# Altium integrated library Atmel Microcontroller AVR UC3.IntLib: 227 symbols (part 22 of 32)
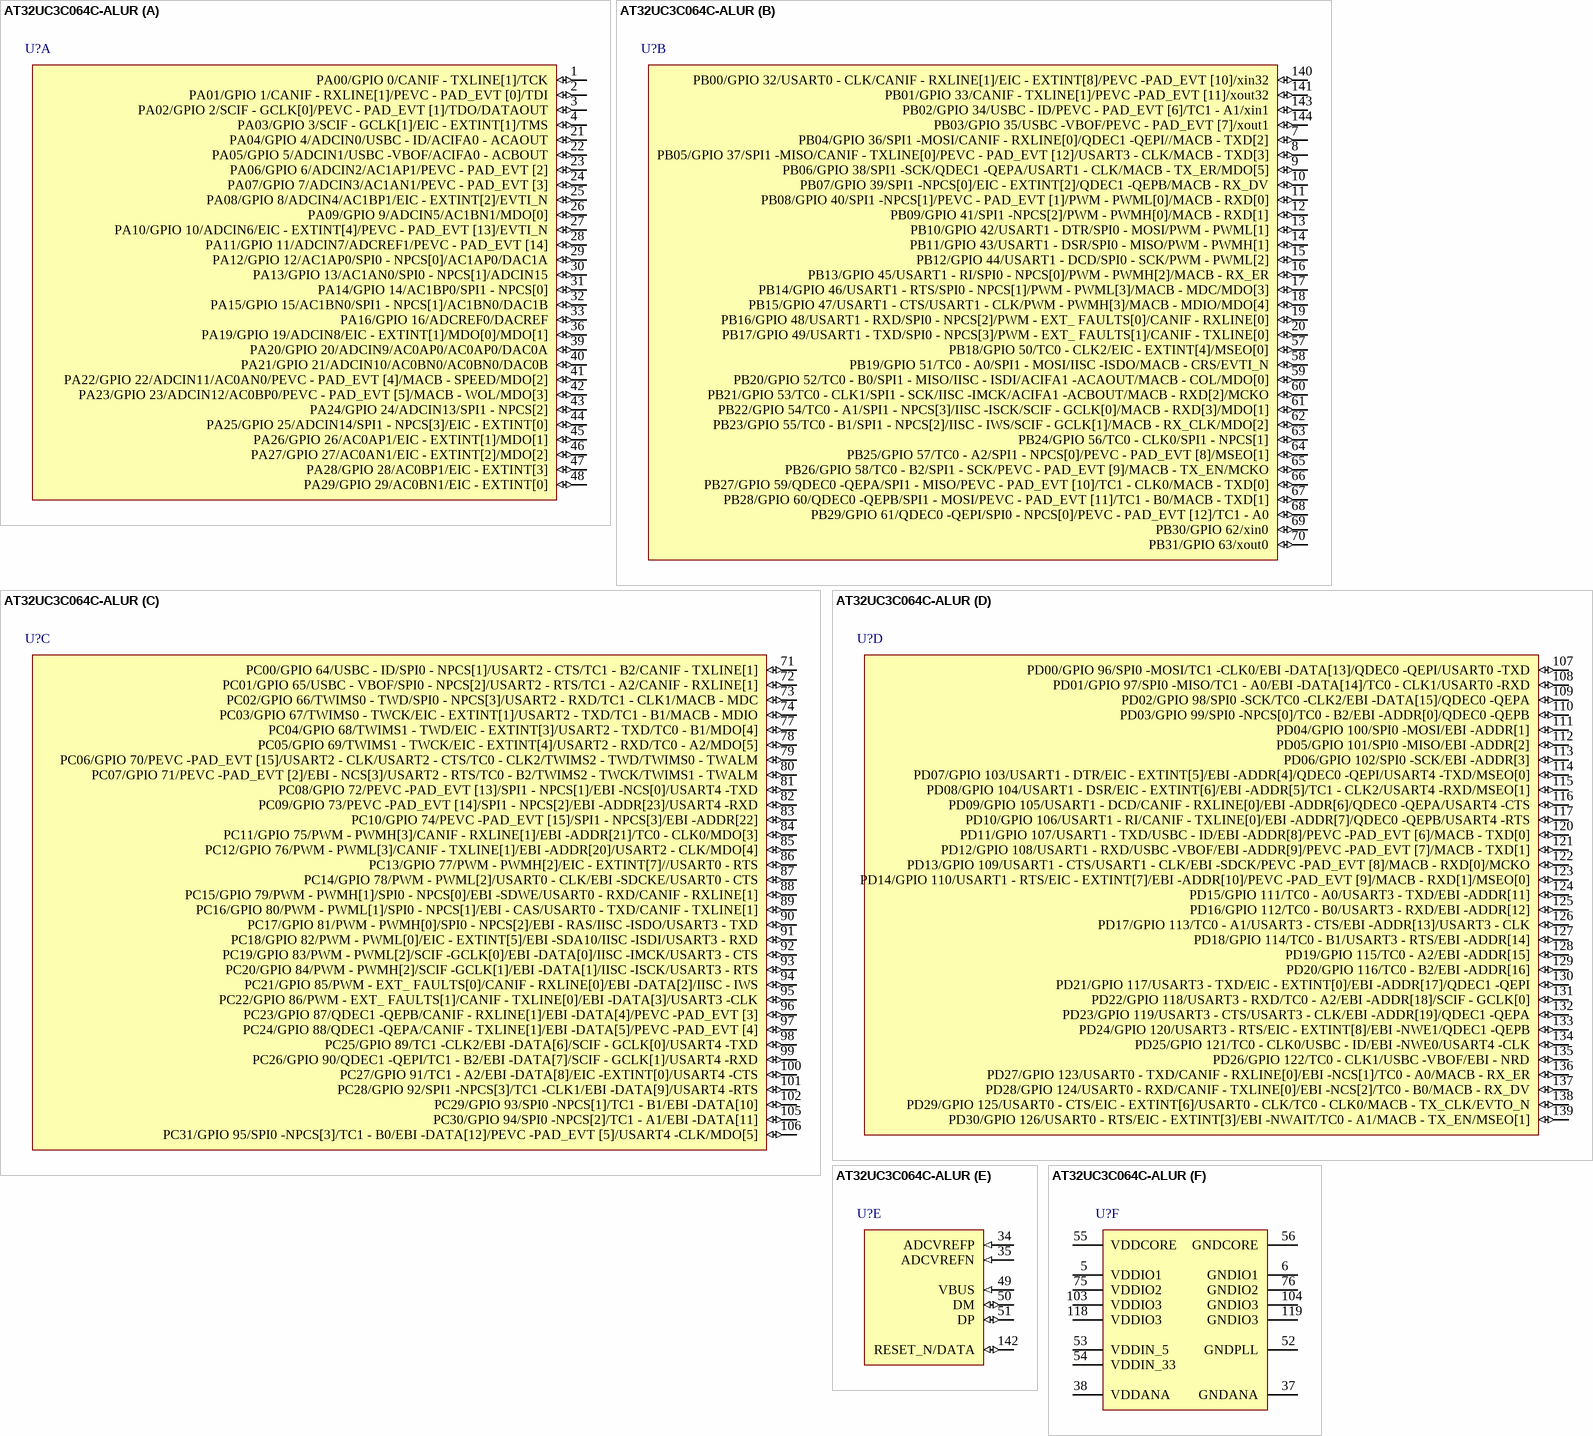
[diagram p153: symbol AT32UC3C064C-ALUR]

## AT32UC3C064C-ALUR
designator U?
32-bit AVR UC3 C Series Microcontroller, 64KB Flash, 20KB SRAM, 123 GPIO pins, Industrial Grade, 144- Pin LQFP, Reel; DatasheetVersion: revC, Aug-2011; PackageVersion: 2011; PackageReference: LQFP144; PackageDescription: 144-Pin Low Profile Plastic Quad Flat Pack, 20 x 20 x 1.4 mm Body, 0.5 mm Pitch; Code_JEDEC: MS-026-BFB; ComponentLink1Description: Manufacturer URL; ComponentLink1URL: http://www.atmel.com/; ComponentLink2Description: AT32UC3C Datasheet; ComponentLink2URL: http://www.atmel.com/dyn/resources/prod_documents/doc32117.pdf; ComponentLink3Description: AT32UC3C Summary; ComponentLink3URL: http://www.atmel.com/dyn/resources/prod_documents/32117s.pdf
footprint LQFP144_N (Thin QFP, 144-Leads, Body 20x20mm, Pitch 0.5mm, IPC Medium Density)
footprint LQFP144_L (Thin QFP, 144-Leads, Body 20x20mm, Pitch 0.5mm, IPC High Density)
footprint LQFP144_M (Thin QFP, 144-Leads, Body 20x20mm, Pitch 0.5mm, IPC Low Density)
part A pins: 1 PA00/GPIO 0/CANIF - TXLINE[1]/TCK (io), 2 PA01/GPIO 1/CANIF - RXLINE[1]/PEVC - PAD_EVT [0]/TDI (io), 3 PA02/GPIO 2/SCIF - GCLK[0]/PEVC - PAD_EVT [1]/TDO/DATAOUT (io), 4 PA03/GPIO 3/SCIF - GCLK[1]/EIC - EXTINT[1]/TMS (io), 21 PA04/GPIO 4/ADCIN0/USBC - ID/ACIFA0 - ACAOUT (io), 22 PA05/GPIO 5/ADCIN1/USBC -VBOF/ACIFA0 - ACBOUT (io), 23 PA06/GPIO 6/ADCIN2/AC1AP1/PEVC - PAD_EVT [2] (io), 24 PA07/GPIO 7/ADCIN3/AC1AN1/PEVC - PAD_EVT [3] (io), 25 PA08/GPIO 8/ADCIN4/AC1BP1/EIC - EXTINT[2]/EVTI_N (io), 26 PA09/GPIO 9/ADCIN5/AC1BN1/MDO[0] (io), 27 PA10/GPIO 10/ADCIN6/EIC - EXTINT[4]/PEVC - PAD_EVT [13]/EVTI_N (io), 28 PA11/GPIO 11/ADCIN7/ADCREF1/PEVC - PAD_EVT [14] (io), 29 PA12/GPIO 12/AC1AP0/SPI0 - NPCS[0]/AC1AP0/DAC1A (io), 30 PA13/GPIO 13/AC1AN0/SPI0 - NPCS[1]/ADCIN15 (io), 31 PA14/GPIO 14/AC1BP0/SPI1 - NPCS[0] (io), 32 PA15/GPIO 15/AC1BN0/SPI1 - NPCS[1]/AC1BN0/DAC1B (io), 33 PA16/GPIO 16/ADCREF0/DACREF (io), 36 PA19/GPIO 19/ADCIN8/EIC - EXTINT[1]/MDO[0]/MDO[1] (io), 39 PA20/GPIO 20/ADCIN9/AC0AP0/AC0AP0/DAC0A (io), 40 PA21/GPIO 21/ADCIN10/AC0BN0/AC0BN0/DAC0B (io), 41 PA22/GPIO 22/ADCIN11/AC0AN0/PEVC - PAD_EVT [4]/MACB - SPEED/MDO[2] (io), 42 PA23/GPIO 23/ADCIN12/AC0BP0/PEVC - PAD_EVT [5]/MACB - WOL/MDO[3] (io), 43 PA24/GPIO 24/ADCIN13/SPI1 - NPCS[2] (io), 44 PA25/GPIO 25/ADCIN14/SPI1 - NPCS[3]/EIC - EXTINT[0] (io), 45 PA26/GPIO 26/AC0AP1/EIC - EXTINT[1]/MDO[1] (io), 46 PA27/GPIO 27/AC0AN1/EIC - EXTINT[2]/MDO[2] (io), 47 PA28/GPIO 28/AC0BP1/EIC - EXTINT[3] (io), 48 PA29/GPIO 29/AC0BN1/EIC - EXTINT[0] (io)
part B pins: 7 PB04/GPIO 36/SPI1 -MOSI/CANIF - RXLINE[0]/QDEC1 -QEPI//MACB - TXD[2] (io), 8 PB05/GPIO 37/SPI1 -MISO/CANIF - TXLINE[0]/PEVC - PAD_EVT [12]/USART3 - CLK/MACB - TXD[3] (io), 9 PB06/GPIO 38/SPI1 -SCK/QDEC1 -QEPA/USART1 - CLK/MACB - TX_ER/MDO[5] (io), 10 PB07/GPIO 39/SPI1 -NPCS[0]/EIC - EXTINT[2]/QDEC1 -QEPB/MACB - RX_DV (io), 11 PB08/GPIO 40/SPI1 -NPCS[1]/PEVC - PAD_EVT [1]/PWM - PWML[0]/MACB - RXD[0] (io), 12 PB09/GPIO 41/SPI1 -NPCS[2]/PWM - PWMH[0]/MACB - RXD[1] (io), 13 PB10/GPIO 42/USART1 - DTR/SPI0 - MOSI/PWM - PWML[1] (io), 14 PB11/GPIO 43/USART1 - DSR/SPI0 - MISO/PWM - PWMH[1] (io), 15 PB12/GPIO 44/USART1 - DCD/SPI0 - SCK/PWM - PWML[2] (io), 16 PB13/GPIO 45/USART1 - RI/SPI0 - NPCS[0]/PWM - PWMH[2]/MACB - RX_ER (io), 17 PB14/GPIO 46/USART1 - RTS/SPI0 - NPCS[1]/PWM - PWML[3]/MACB - MDC/MDO[3] (io), 18 PB15/GPIO 47/USART1 - CTS/USART1 - CLK/PWM - PWMH[3]/MACB - MDIO/MDO[4] (io), 19 PB16/GPIO 48/USART1 - RXD/SPI0 - NPCS[2]/PWM - EXT_ FAULTS[0]/CANIF - RXLINE[0] (io), 20 PB17/GPIO 49/USART1 - TXD/SPI0 - NPCS[3]/PWM - EXT_ FAULTS[1]/CANIF - TXLINE[0] (io), 57 PB18/GPIO 50/TC0 - CLK2/EIC - EXTINT[4]/MSEO[0] (io), 58 PB19/GPIO 51/TC0 - A0/SPI1 - MOSI/IISC -ISDO/MACB - CRS/EVTI_N (io), 59 PB20/GPIO 52/TC0 - B0/SPI1 - MISO/IISC - ISDI/ACIFA1 -ACAOUT/MACB - COL/MDO[0] (io), 60 PB21/GPIO 53/TC0 - CLK1/SPI1 - SCK/IISC -IMCK/ACIFA1 -ACBOUT/MACB - RXD[2]/MCKO (io), 61 PB22/GPIO 54/TC0 - A1/SPI1 - NPCS[3]/IISC -ISCK/SCIF - GCLK[0]/MACB - RXD[3]/MDO[1] (io), 62 PB23/GPIO 55/TC0 - B1/SPI1 - NPCS[2]/IISC - IWS/SCIF - GCLK[1]/MACB - RX_CLK/MDO[2] (io), 63 PB24/GPIO 56/TC0 - CLK0/SPI1 - NPCS[1] (io), 64 PB25/GPIO 57/TC0 - A2/SPI1 - NPCS[0]/PEVC - PAD_EVT [8]/MSEO[1] (io), 65 PB26/GPIO 58/TC0 - B2/SPI1 - SCK/PEVC - PAD_EVT [9]/MACB - TX_EN/MCKO (io), 66 PB27/GPIO 59/QDEC0 -QEPA/SPI1 - MISO/PEVC - PAD_EVT [10]/TC1 - CLK0/MACB - TXD[0] (io), 67 PB28/GPIO 60/QDEC0 -QEPB/SPI1 - MOSI/PEVC - PAD_EVT [11]/TC1 - B0/MACB - TXD[1] (io), 68 PB29/GPIO 61/QDEC0 -QEPI/SPI0 - NPCS[0]/PEVC - PAD_EVT [12]/TC1 - A0 (io), 69 PB30/GPIO 62/xin0 (io), 70 PB31/GPIO 63/xout0 (io), 140 PB00/GPIO 32/USART0 - CLK/CANIF - RXLINE[1]/EIC - EXTINT[8]/PEVC -PAD_EVT [10]/xin32 (io), 141 PB01/GPIO 33/CANIF - TXLINE[1]/PEVC -PAD_EVT [11]/xout32 (io), 143 PB02/GPIO 34/USBC - ID/PEVC - PAD_EVT [6]/TC1 - A1/xin1 (io), 144 PB03/GPIO 35/USBC -VBOF/PEVC - PAD_EVT [7]/xout1 (io)
part C pins: 71 PC00/GPIO 64/USBC - ID/SPI0 - NPCS[1]/USART2 - CTS/TC1 - B2/CANIF - TXLINE[1] (io), 72 PC01/GPIO 65/USBC - VBOF/SPI0 - NPCS[2]/USART2 - RTS/TC1 - A2/CANIF - RXLINE[1] (io), 73 PC02/GPIO 66/TWIMS0 - TWD/SPI0 - NPCS[3]/USART2 - RXD/TC1 - CLK1/MACB - MDC (io), 74 PC03/GPIO 67/TWIMS0 - TWCK/EIC - EXTINT[1]/USART2 - TXD/TC1 - B1/MACB - MDIO (io), 77 PC04/GPIO 68/TWIMS1 - TWD/EIC - EXTINT[3]/USART2 - TXD/TC0 - B1/MDO[4] (io), 78 PC05/GPIO 69/TWIMS1 - TWCK/EIC - EXTINT[4]/USART2 - RXD/TC0 - A2/MDO[5] (io), 79 PC06/GPIO 70/PEVC -PAD_EVT [15]/USART2 - CLK/USART2 - CTS/TC0 - CLK2/TWIMS2 - TWD/TWIMS0 - TWALM (io), 80 PC07/GPIO 71/PEVC -PAD_EVT [2]/EBI - NCS[3]/USART2 - RTS/TC0 - B2/TWIMS2 - TWCK/TWIMS1 - TWALM (io), 81 PC08/GPIO 72/PEVC -PAD_EVT [13]/SPI1 - NPCS[1]/EBI -NCS[0]/USART4 -TXD (io), 82 PC09/GPIO 73/PEVC -PAD_EVT [14]/SPI1 - NPCS[2]/EBI -ADDR[23]/USART4 -RXD (io), 83 PC10/GPIO 74/PEVC -PAD_EVT [15]/SPI1 - NPCS[3]/EBI -ADDR[22] (io), 84 PC11/GPIO 75/PWM - PWMH[3]/CANIF - RXLINE[1]/EBI -ADDR[21]/TC0 - CLK0/MDO[3] (io), 85 PC12/GPIO 76/PWM - PWML[3]/CANIF - TXLINE[1]/EBI -ADDR[20]/USART2 - CLK/MDO[4] (io), 86 PC13/GPIO 77/PWM - PWMH[2]/EIC - EXTINT[7]//USART0 - RTS (io), 87 PC14/GPIO 78/PWM - PWML[2]/USART0 - CLK/EBI -SDCKE/USART0 - CTS (io), 88 PC15/GPIO 79/PWM - PWMH[1]/SPI0 - NPCS[0]/EBI -SDWE/USART0 - RXD/CANIF - RXLINE[1] (io), 89 PC16/GPIO 80/PWM - PWML[1]/SPI0 - NPCS[1]/EBI - CAS/USART0 - TXD/CANIF - TXLINE[1] (io), 90 PC17/GPIO 81/PWM - PWMH[0]/SPI0 - NPCS[2]/EBI - RAS/IISC -ISDO/USART3 - TXD (io), 91 PC18/GPIO 82/PWM - PWML[0]/EIC - EXTINT[5]/EBI -SDA10/IISC -ISDI/USART3 - RXD (io), 92 PC19/GPIO 83/PWM - PWML[2]/SCIF -GCLK[0]/EBI -DATA[0]/IISC -IMCK/USART3 - CTS (io), 93 PC20/GPIO 84/PWM - PWMH[2]/SCIF -GCLK[1]/EBI -DATA[1]/IISC -ISCK/USART3 - RTS (io), 94 PC21/GPIO 85/PWM - EXT_ FAULTS[0]/CANIF - RXLINE[0]/EBI -DATA[2]/IISC - IWS (io), 95 PC22/GPIO 86/PWM - EXT_ FAULTS[1]/CANIF - TXLINE[0]/EBI -DATA[3]/USART3 -CLK (io), 96 PC23/GPIO 87/QDEC1 -QEPB/CANIF - RXLINE[1]/EBI -DATA[4]/PEVC -PAD_EVT [3] (io), 97 PC24/GPIO 88/QDEC1 -QEPA/CANIF - TXLINE[1]/EBI -DATA[5]/PEVC -PAD_EVT [4] (io), 98 PC25/GPIO 89/TC1 -CLK2/EBI -DATA[6]/SCIF - GCLK[0]/USART4 -TXD (io), 99 PC26/GPIO 90/QDEC1 -QEPI/TC1 - B2/EBI -DATA[7]/SCIF - GCLK[1]/USART4 -RXD (io), 100 PC27/GPIO 91/TC1 - A2/EBI -DATA[8]/EIC -EXTINT[0]/USART4 -CTS (io), 101 PC28/GPIO 92/SPI1 -NPCS[3]/TC1 -CLK1/EBI -DATA[9]/USART4 -RTS (io), 102 PC29/GPIO 93/SPI0 -NPCS[1]/TC1 - B1/EBI -DATA[10] (io), 105 PC30/GPIO 94/SPI0 -NPCS[2]/TC1 - A1/EBI -DATA[11] (io), 106 PC31/GPIO 95/SPI0 -NPCS[3]/TC1 - B0/EBI -DATA[12]/PEVC -PAD_EVT [5]/USART4 -CLK/MDO[5] (io)
part D pins: 107 PD00/GPIO 96/SPI0 -MOSI/TC1 -CLK0/EBI -DATA[13]/QDEC0 -QEPI/USART0 -TXD (io), 108 PD01/GPIO 97/SPI0 -MISO/TC1 - A0/EBI -DATA[14]/TC0 - CLK1/USART0 -RXD (io), 109 PD02/GPIO 98/SPI0 -SCK/TC0 -CLK2/EBI -DATA[15]/QDEC0 -QEPA (io), 110 PD03/GPIO 99/SPI0 -NPCS[0]/TC0 - B2/EBI -ADDR[0]/QDEC0 -QEPB (io), 111 PD04/GPIO 100/SPI0 -MOSI/EBI -ADDR[1] (io), 112 PD05/GPIO 101/SPI0 -MISO/EBI -ADDR[2] (io), 113 PD06/GPIO 102/SPI0 -SCK/EBI -ADDR[3] (io), 114 PD07/GPIO 103/USART1 - DTR/EIC - EXTINT[5]/EBI -ADDR[4]/QDEC0 -QEPI/USART4 -TXD/MSEO[0] (io), 115 PD08/GPIO 104/USART1 - DSR/EIC - EXTINT[6]/EBI -ADDR[5]/TC1 - CLK2/USART4 -RXD/MSEO[1] (io), 116 PD09/GPIO 105/USART1 - DCD/CANIF - RXLINE[0]/EBI -ADDR[6]/QDEC0 -QEPA/USART4 -CTS (io), 117 PD10/GPIO 106/USART1 - RI/CANIF - TXLINE[0]/EBI -ADDR[7]/QDEC0 -QEPB/USART4 -RTS (io), 120 PD11/GPIO 107/USART1 - TXD/USBC - ID/EBI -ADDR[8]/PEVC -PAD_EVT [6]/MACB - TXD[0] (io), 121 PD12/GPIO 108/USART1 - RXD/USBC -VBOF/EBI -ADDR[9]/PEVC -PAD_EVT [7]/MACB - TXD[1] (io), 122 PD13/GPIO 109/USART1 - CTS/USART1 - CLK/EBI -SDCK/PEVC -PAD_EVT [8]/MACB - RXD[0]/MCKO (io), 123 PD14/GPIO 110/USART1 - RTS/EIC - EXTINT[7]/EBI -ADDR[10]/PEVC -PAD_EVT [9]/MACB - RXD[1]/MSEO[0] (io), 124 PD15/GPIO 111/TC0 - A0/USART3 - TXD/EBI -ADDR[11] (io), 125 PD16/GPIO 112/TC0 - B0/USART3 - RXD/EBI -ADDR[12] (io), 126 PD17/GPIO 113/TC0 - A1/USART3 - CTS/EBI -ADDR[13]/USART3 - CLK (io), 127 PD18/GPIO 114/TC0 - B1/USART3 - RTS/EBI -ADDR[14] (io), 128 PD19/GPIO 115/TC0 - A2/EBI -ADDR[15] (io), 129 PD20/GPIO 116/TC0 - B2/EBI -ADDR[16] (io), 130 PD21/GPIO 117/USART3 - TXD/EIC - EXTINT[0]/EBI -ADDR[17]/QDEC1 -QEPI (io), 131 PD22/GPIO 118/USART3 - RXD/TC0 - A2/EBI -ADDR[18]/SCIF - GCLK[0] (io), 132 PD23/GPIO 119/USART3 - CTS/USART3 - CLK/EBI -ADDR[19]/QDEC1 -QEPA (io), 133 PD24/GPIO 120/USART3 - RTS/EIC - EXTINT[8]/EBI -NWE1/QDEC1 -QEPB (io), 134 PD25/GPIO 121/TC0 - CLK0/USBC - ID/EBI -NWE0/USART4 -CLK (io), 135 PD26/GPIO 122/TC0 - CLK1/USBC -VBOF/EBI - NRD (io), 136 PD27/GPIO 123/USART0 - TXD/CANIF - RXLINE[0]/EBI -NCS[1]/TC0 - A0/MACB - RX_ER (io), 137 PD28/GPIO 124/USART0 - RXD/CANIF - TXLINE[0]/EBI -NCS[2]/TC0 - B0/MACB - RX_DV (io), 138 PD29/GPIO 125/USART0 - CTS/EIC - EXTINT[6]/USART0 - CLK/TC0 - CLK0/MACB - TX_CLK/EVTO_N (io), 139 PD30/GPIO 126/USART0 - RTS/EIC - EXTINT[3]/EBI -NWAIT/TC0 - A1/MACB - TX_EN/MSEO[1] (io)
part E pins: 34 ADCVREFP (in), 35 ADCVREFN (in), 49 VBUS (in), 50 DM (io), 51 DP (io), 142 RESET_N/DATA (io)
part F pins: 5 VDDIO1 (power), 6 GNDIO1 (power), 37 GNDANA (power), 38 VDDANA (power), 52 GNDPLL (power), 53 VDDIN_5 (power), 54 VDDIN_33 (power), 55 VDDCORE (power), 56 GNDCORE (power), 75 VDDIO2 (power), 76 GNDIO2 (power), 103 VDDIO3 (power), 104 GNDIO3 (power), 118 VDDIO3 (power), 119 GNDIO3 (power)

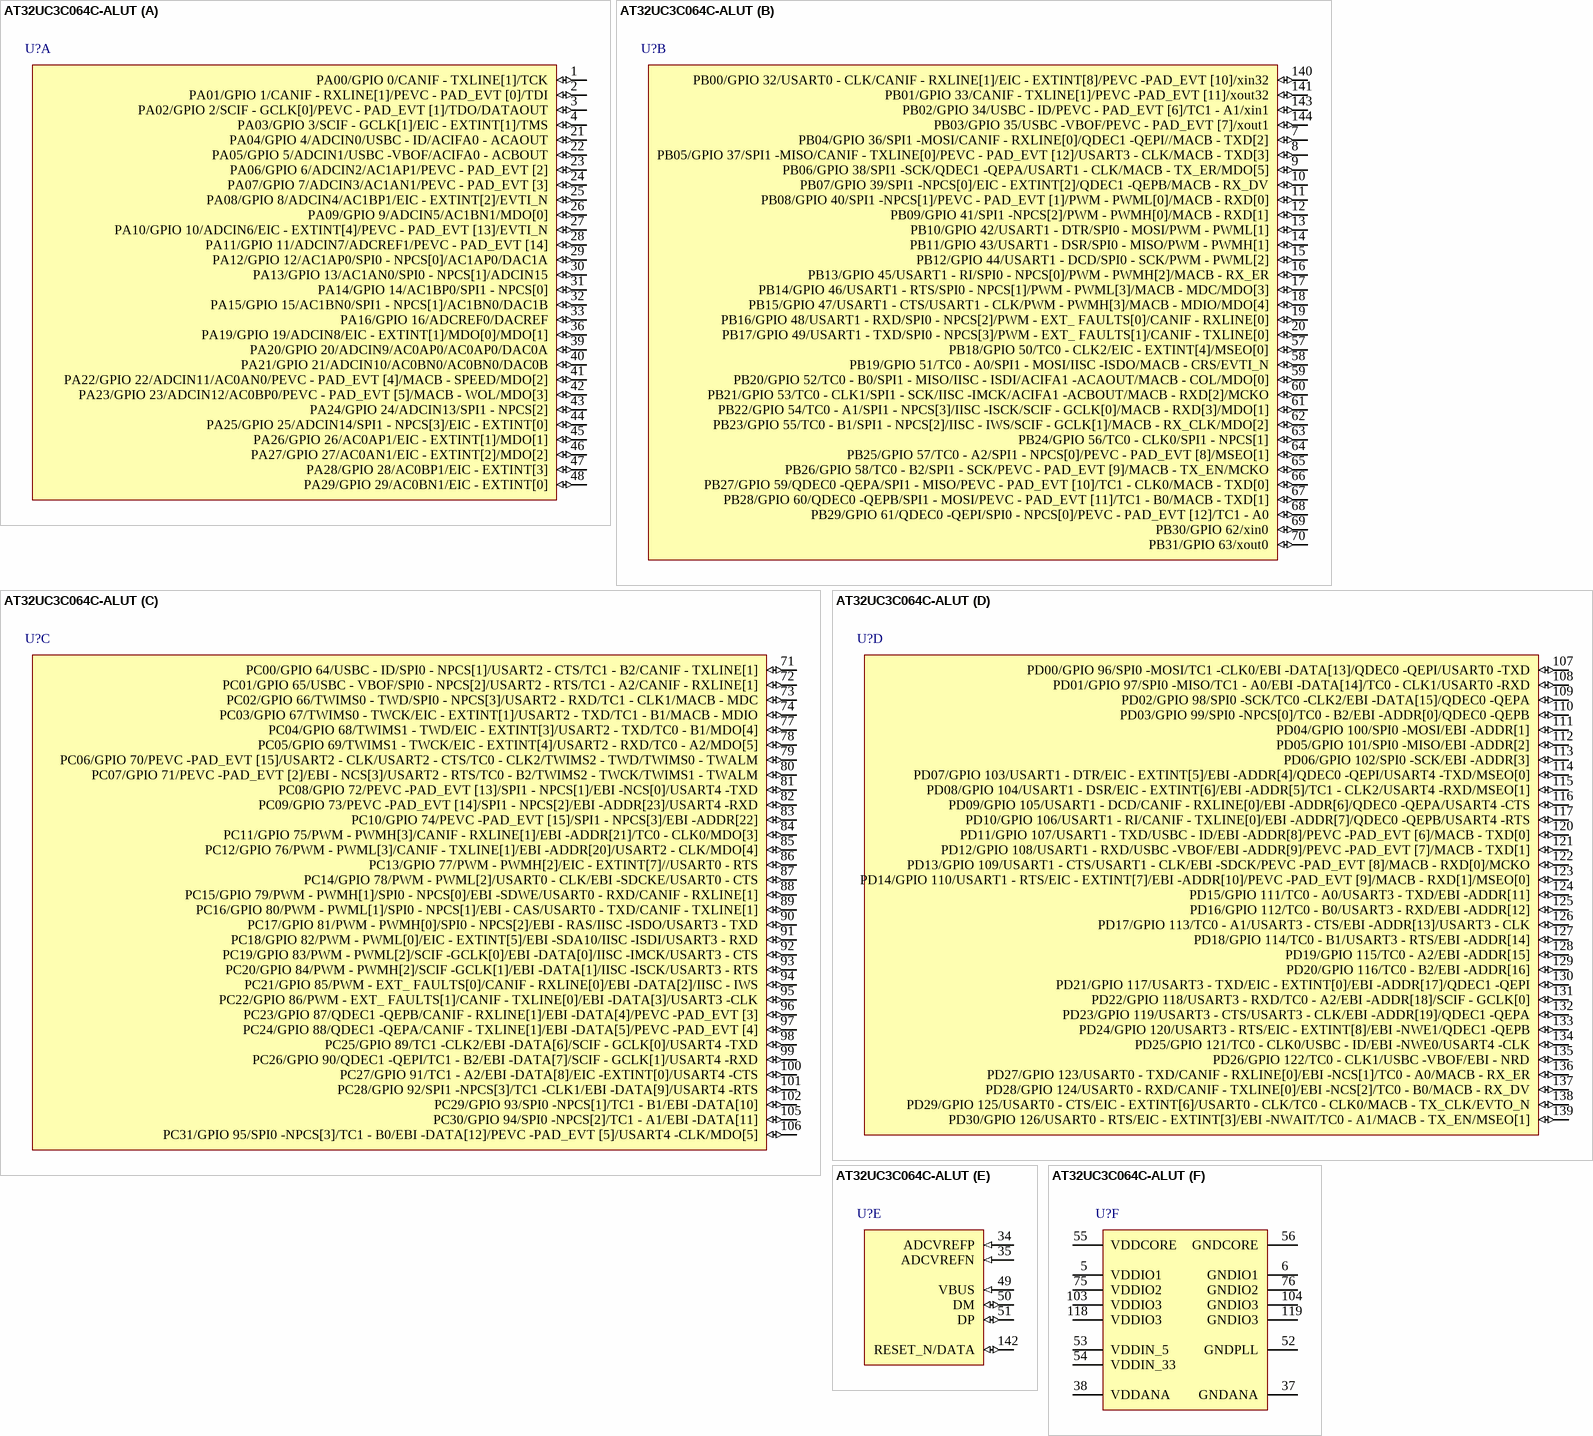
[diagram p71: symbol AT32UC3C064C-ALUT]

## AT32UC3C064C-ALUT
designator U?
32-bit AVR UC3 C Series Microcontroller, 64KB Flash, 20KB SRAM, 123 GPIO pins, Industrial Grade, 144- Pin LQFP, Tray; DatasheetVersion: revC, Aug-2011; PackageVersion: 2011; PackageReference: LQFP144; PackageDescription: 144-Pin Low Profile Plastic Quad Flat Pack, 20 x 20 x 1.4 mm Body, 0.5 mm Pitch; Code_JEDEC: MS-026-BFB; ComponentLink1Description: Manufacturer URL; ComponentLink1URL: http://www.atmel.com/; ComponentLink2Description: AT32UC3C Datasheet; ComponentLink2URL: http://www.atmel.com/dyn/resources/prod_documents/doc32117.pdf; ComponentLink3Description: AT32UC3C Summary; ComponentLink3URL: http://www.atmel.com/dyn/resources/prod_documents/32117s.pdf
footprint LQFP144_N (Thin QFP, 144-Leads, Body 20x20mm, Pitch 0.5mm, IPC Medium Density)
footprint LQFP144_L (Thin QFP, 144-Leads, Body 20x20mm, Pitch 0.5mm, IPC High Density)
footprint LQFP144_M (Thin QFP, 144-Leads, Body 20x20mm, Pitch 0.5mm, IPC Low Density)
part A pins: 1 PA00/GPIO 0/CANIF - TXLINE[1]/TCK (io), 2 PA01/GPIO 1/CANIF - RXLINE[1]/PEVC - PAD_EVT [0]/TDI (io), 3 PA02/GPIO 2/SCIF - GCLK[0]/PEVC - PAD_EVT [1]/TDO/DATAOUT (io), 4 PA03/GPIO 3/SCIF - GCLK[1]/EIC - EXTINT[1]/TMS (io), 21 PA04/GPIO 4/ADCIN0/USBC - ID/ACIFA0 - ACAOUT (io), 22 PA05/GPIO 5/ADCIN1/USBC -VBOF/ACIFA0 - ACBOUT (io), 23 PA06/GPIO 6/ADCIN2/AC1AP1/PEVC - PAD_EVT [2] (io), 24 PA07/GPIO 7/ADCIN3/AC1AN1/PEVC - PAD_EVT [3] (io), 25 PA08/GPIO 8/ADCIN4/AC1BP1/EIC - EXTINT[2]/EVTI_N (io), 26 PA09/GPIO 9/ADCIN5/AC1BN1/MDO[0] (io), 27 PA10/GPIO 10/ADCIN6/EIC - EXTINT[4]/PEVC - PAD_EVT [13]/EVTI_N (io), 28 PA11/GPIO 11/ADCIN7/ADCREF1/PEVC - PAD_EVT [14] (io), 29 PA12/GPIO 12/AC1AP0/SPI0 - NPCS[0]/AC1AP0/DAC1A (io), 30 PA13/GPIO 13/AC1AN0/SPI0 - NPCS[1]/ADCIN15 (io), 31 PA14/GPIO 14/AC1BP0/SPI1 - NPCS[0] (io), 32 PA15/GPIO 15/AC1BN0/SPI1 - NPCS[1]/AC1BN0/DAC1B (io), 33 PA16/GPIO 16/ADCREF0/DACREF (io), 36 PA19/GPIO 19/ADCIN8/EIC - EXTINT[1]/MDO[0]/MDO[1] (io), 39 PA20/GPIO 20/ADCIN9/AC0AP0/AC0AP0/DAC0A (io), 40 PA21/GPIO 21/ADCIN10/AC0BN0/AC0BN0/DAC0B (io), 41 PA22/GPIO 22/ADCIN11/AC0AN0/PEVC - PAD_EVT [4]/MACB - SPEED/MDO[2] (io), 42 PA23/GPIO 23/ADCIN12/AC0BP0/PEVC - PAD_EVT [5]/MACB - WOL/MDO[3] (io), 43 PA24/GPIO 24/ADCIN13/SPI1 - NPCS[2] (io), 44 PA25/GPIO 25/ADCIN14/SPI1 - NPCS[3]/EIC - EXTINT[0] (io), 45 PA26/GPIO 26/AC0AP1/EIC - EXTINT[1]/MDO[1] (io), 46 PA27/GPIO 27/AC0AN1/EIC - EXTINT[2]/MDO[2] (io), 47 PA28/GPIO 28/AC0BP1/EIC - EXTINT[3] (io), 48 PA29/GPIO 29/AC0BN1/EIC - EXTINT[0] (io)
part B pins: 7 PB04/GPIO 36/SPI1 -MOSI/CANIF - RXLINE[0]/QDEC1 -QEPI//MACB - TXD[2] (io), 8 PB05/GPIO 37/SPI1 -MISO/CANIF - TXLINE[0]/PEVC - PAD_EVT [12]/USART3 - CLK/MACB - TXD[3] (io), 9 PB06/GPIO 38/SPI1 -SCK/QDEC1 -QEPA/USART1 - CLK/MACB - TX_ER/MDO[5] (io), 10 PB07/GPIO 39/SPI1 -NPCS[0]/EIC - EXTINT[2]/QDEC1 -QEPB/MACB - RX_DV (io), 11 PB08/GPIO 40/SPI1 -NPCS[1]/PEVC - PAD_EVT [1]/PWM - PWML[0]/MACB - RXD[0] (io), 12 PB09/GPIO 41/SPI1 -NPCS[2]/PWM - PWMH[0]/MACB - RXD[1] (io), 13 PB10/GPIO 42/USART1 - DTR/SPI0 - MOSI/PWM - PWML[1] (io), 14 PB11/GPIO 43/USART1 - DSR/SPI0 - MISO/PWM - PWMH[1] (io), 15 PB12/GPIO 44/USART1 - DCD/SPI0 - SCK/PWM - PWML[2] (io), 16 PB13/GPIO 45/USART1 - RI/SPI0 - NPCS[0]/PWM - PWMH[2]/MACB - RX_ER (io), 17 PB14/GPIO 46/USART1 - RTS/SPI0 - NPCS[1]/PWM - PWML[3]/MACB - MDC/MDO[3] (io), 18 PB15/GPIO 47/USART1 - CTS/USART1 - CLK/PWM - PWMH[3]/MACB - MDIO/MDO[4] (io), 19 PB16/GPIO 48/USART1 - RXD/SPI0 - NPCS[2]/PWM - EXT_ FAULTS[0]/CANIF - RXLINE[0] (io), 20 PB17/GPIO 49/USART1 - TXD/SPI0 - NPCS[3]/PWM - EXT_ FAULTS[1]/CANIF - TXLINE[0] (io), 57 PB18/GPIO 50/TC0 - CLK2/EIC - EXTINT[4]/MSEO[0] (io), 58 PB19/GPIO 51/TC0 - A0/SPI1 - MOSI/IISC -ISDO/MACB - CRS/EVTI_N (io), 59 PB20/GPIO 52/TC0 - B0/SPI1 - MISO/IISC - ISDI/ACIFA1 -ACAOUT/MACB - COL/MDO[0] (io), 60 PB21/GPIO 53/TC0 - CLK1/SPI1 - SCK/IISC -IMCK/ACIFA1 -ACBOUT/MACB - RXD[2]/MCKO (io), 61 PB22/GPIO 54/TC0 - A1/SPI1 - NPCS[3]/IISC -ISCK/SCIF - GCLK[0]/MACB - RXD[3]/MDO[1] (io), 62 PB23/GPIO 55/TC0 - B1/SPI1 - NPCS[2]/IISC - IWS/SCIF - GCLK[1]/MACB - RX_CLK/MDO[2] (io), 63 PB24/GPIO 56/TC0 - CLK0/SPI1 - NPCS[1] (io), 64 PB25/GPIO 57/TC0 - A2/SPI1 - NPCS[0]/PEVC - PAD_EVT [8]/MSEO[1] (io), 65 PB26/GPIO 58/TC0 - B2/SPI1 - SCK/PEVC - PAD_EVT [9]/MACB - TX_EN/MCKO (io), 66 PB27/GPIO 59/QDEC0 -QEPA/SPI1 - MISO/PEVC - PAD_EVT [10]/TC1 - CLK0/MACB - TXD[0] (io), 67 PB28/GPIO 60/QDEC0 -QEPB/SPI1 - MOSI/PEVC - PAD_EVT [11]/TC1 - B0/MACB - TXD[1] (io), 68 PB29/GPIO 61/QDEC0 -QEPI/SPI0 - NPCS[0]/PEVC - PAD_EVT [12]/TC1 - A0 (io), 69 PB30/GPIO 62/xin0 (io), 70 PB31/GPIO 63/xout0 (io), 140 PB00/GPIO 32/USART0 - CLK/CANIF - RXLINE[1]/EIC - EXTINT[8]/PEVC -PAD_EVT [10]/xin32 (io), 141 PB01/GPIO 33/CANIF - TXLINE[1]/PEVC -PAD_EVT [11]/xout32 (io), 143 PB02/GPIO 34/USBC - ID/PEVC - PAD_EVT [6]/TC1 - A1/xin1 (io), 144 PB03/GPIO 35/USBC -VBOF/PEVC - PAD_EVT [7]/xout1 (io)
part C pins: 71 PC00/GPIO 64/USBC - ID/SPI0 - NPCS[1]/USART2 - CTS/TC1 - B2/CANIF - TXLINE[1] (io), 72 PC01/GPIO 65/USBC - VBOF/SPI0 - NPCS[2]/USART2 - RTS/TC1 - A2/CANIF - RXLINE[1] (io), 73 PC02/GPIO 66/TWIMS0 - TWD/SPI0 - NPCS[3]/USART2 - RXD/TC1 - CLK1/MACB - MDC (io), 74 PC03/GPIO 67/TWIMS0 - TWCK/EIC - EXTINT[1]/USART2 - TXD/TC1 - B1/MACB - MDIO (io), 77 PC04/GPIO 68/TWIMS1 - TWD/EIC - EXTINT[3]/USART2 - TXD/TC0 - B1/MDO[4] (io), 78 PC05/GPIO 69/TWIMS1 - TWCK/EIC - EXTINT[4]/USART2 - RXD/TC0 - A2/MDO[5] (io), 79 PC06/GPIO 70/PEVC -PAD_EVT [15]/USART2 - CLK/USART2 - CTS/TC0 - CLK2/TWIMS2 - TWD/TWIMS0 - TWALM (io), 80 PC07/GPIO 71/PEVC -PAD_EVT [2]/EBI - NCS[3]/USART2 - RTS/TC0 - B2/TWIMS2 - TWCK/TWIMS1 - TWALM (io), 81 PC08/GPIO 72/PEVC -PAD_EVT [13]/SPI1 - NPCS[1]/EBI -NCS[0]/USART4 -TXD (io), 82 PC09/GPIO 73/PEVC -PAD_EVT [14]/SPI1 - NPCS[2]/EBI -ADDR[23]/USART4 -RXD (io), 83 PC10/GPIO 74/PEVC -PAD_EVT [15]/SPI1 - NPCS[3]/EBI -ADDR[22] (io), 84 PC11/GPIO 75/PWM - PWMH[3]/CANIF - RXLINE[1]/EBI -ADDR[21]/TC0 - CLK0/MDO[3] (io), 85 PC12/GPIO 76/PWM - PWML[3]/CANIF - TXLINE[1]/EBI -ADDR[20]/USART2 - CLK/MDO[4] (io), 86 PC13/GPIO 77/PWM - PWMH[2]/EIC - EXTINT[7]//USART0 - RTS (io), 87 PC14/GPIO 78/PWM - PWML[2]/USART0 - CLK/EBI -SDCKE/USART0 - CTS (io), 88 PC15/GPIO 79/PWM - PWMH[1]/SPI0 - NPCS[0]/EBI -SDWE/USART0 - RXD/CANIF - RXLINE[1] (io), 89 PC16/GPIO 80/PWM - PWML[1]/SPI0 - NPCS[1]/EBI - CAS/USART0 - TXD/CANIF - TXLINE[1] (io), 90 PC17/GPIO 81/PWM - PWMH[0]/SPI0 - NPCS[2]/EBI - RAS/IISC -ISDO/USART3 - TXD (io), 91 PC18/GPIO 82/PWM - PWML[0]/EIC - EXTINT[5]/EBI -SDA10/IISC -ISDI/USART3 - RXD (io), 92 PC19/GPIO 83/PWM - PWML[2]/SCIF -GCLK[0]/EBI -DATA[0]/IISC -IMCK/USART3 - CTS (io), 93 PC20/GPIO 84/PWM - PWMH[2]/SCIF -GCLK[1]/EBI -DATA[1]/IISC -ISCK/USART3 - RTS (io), 94 PC21/GPIO 85/PWM - EXT_ FAULTS[0]/CANIF - RXLINE[0]/EBI -DATA[2]/IISC - IWS (io), 95 PC22/GPIO 86/PWM - EXT_ FAULTS[1]/CANIF - TXLINE[0]/EBI -DATA[3]/USART3 -CLK (io), 96 PC23/GPIO 87/QDEC1 -QEPB/CANIF - RXLINE[1]/EBI -DATA[4]/PEVC -PAD_EVT [3] (io), 97 PC24/GPIO 88/QDEC1 -QEPA/CANIF - TXLINE[1]/EBI -DATA[5]/PEVC -PAD_EVT [4] (io), 98 PC25/GPIO 89/TC1 -CLK2/EBI -DATA[6]/SCIF - GCLK[0]/USART4 -TXD (io), 99 PC26/GPIO 90/QDEC1 -QEPI/TC1 - B2/EBI -DATA[7]/SCIF - GCLK[1]/USART4 -RXD (io), 100 PC27/GPIO 91/TC1 - A2/EBI -DATA[8]/EIC -EXTINT[0]/USART4 -CTS (io), 101 PC28/GPIO 92/SPI1 -NPCS[3]/TC1 -CLK1/EBI -DATA[9]/USART4 -RTS (io), 102 PC29/GPIO 93/SPI0 -NPCS[1]/TC1 - B1/EBI -DATA[10] (io), 105 PC30/GPIO 94/SPI0 -NPCS[2]/TC1 - A1/EBI -DATA[11] (io), 106 PC31/GPIO 95/SPI0 -NPCS[3]/TC1 - B0/EBI -DATA[12]/PEVC -PAD_EVT [5]/USART4 -CLK/MDO[5] (io)
part D pins: 107 PD00/GPIO 96/SPI0 -MOSI/TC1 -CLK0/EBI -DATA[13]/QDEC0 -QEPI/USART0 -TXD (io), 108 PD01/GPIO 97/SPI0 -MISO/TC1 - A0/EBI -DATA[14]/TC0 - CLK1/USART0 -RXD (io), 109 PD02/GPIO 98/SPI0 -SCK/TC0 -CLK2/EBI -DATA[15]/QDEC0 -QEPA (io), 110 PD03/GPIO 99/SPI0 -NPCS[0]/TC0 - B2/EBI -ADDR[0]/QDEC0 -QEPB (io), 111 PD04/GPIO 100/SPI0 -MOSI/EBI -ADDR[1] (io), 112 PD05/GPIO 101/SPI0 -MISO/EBI -ADDR[2] (io), 113 PD06/GPIO 102/SPI0 -SCK/EBI -ADDR[3] (io), 114 PD07/GPIO 103/USART1 - DTR/EIC - EXTINT[5]/EBI -ADDR[4]/QDEC0 -QEPI/USART4 -TXD/MSEO[0] (io), 115 PD08/GPIO 104/USART1 - DSR/EIC - EXTINT[6]/EBI -ADDR[5]/TC1 - CLK2/USART4 -RXD/MSEO[1] (io), 116 PD09/GPIO 105/USART1 - DCD/CANIF - RXLINE[0]/EBI -ADDR[6]/QDEC0 -QEPA/USART4 -CTS (io), 117 PD10/GPIO 106/USART1 - RI/CANIF - TXLINE[0]/EBI -ADDR[7]/QDEC0 -QEPB/USART4 -RTS (io), 120 PD11/GPIO 107/USART1 - TXD/USBC - ID/EBI -ADDR[8]/PEVC -PAD_EVT [6]/MACB - TXD[0] (io), 121 PD12/GPIO 108/USART1 - RXD/USBC -VBOF/EBI -ADDR[9]/PEVC -PAD_EVT [7]/MACB - TXD[1] (io), 122 PD13/GPIO 109/USART1 - CTS/USART1 - CLK/EBI -SDCK/PEVC -PAD_EVT [8]/MACB - RXD[0]/MCKO (io), 123 PD14/GPIO 110/USART1 - RTS/EIC - EXTINT[7]/EBI -ADDR[10]/PEVC -PAD_EVT [9]/MACB - RXD[1]/MSEO[0] (io), 124 PD15/GPIO 111/TC0 - A0/USART3 - TXD/EBI -ADDR[11] (io), 125 PD16/GPIO 112/TC0 - B0/USART3 - RXD/EBI -ADDR[12] (io), 126 PD17/GPIO 113/TC0 - A1/USART3 - CTS/EBI -ADDR[13]/USART3 - CLK (io), 127 PD18/GPIO 114/TC0 - B1/USART3 - RTS/EBI -ADDR[14] (io), 128 PD19/GPIO 115/TC0 - A2/EBI -ADDR[15] (io), 129 PD20/GPIO 116/TC0 - B2/EBI -ADDR[16] (io), 130 PD21/GPIO 117/USART3 - TXD/EIC - EXTINT[0]/EBI -ADDR[17]/QDEC1 -QEPI (io), 131 PD22/GPIO 118/USART3 - RXD/TC0 - A2/EBI -ADDR[18]/SCIF - GCLK[0] (io), 132 PD23/GPIO 119/USART3 - CTS/USART3 - CLK/EBI -ADDR[19]/QDEC1 -QEPA (io), 133 PD24/GPIO 120/USART3 - RTS/EIC - EXTINT[8]/EBI -NWE1/QDEC1 -QEPB (io), 134 PD25/GPIO 121/TC0 - CLK0/USBC - ID/EBI -NWE0/USART4 -CLK (io), 135 PD26/GPIO 122/TC0 - CLK1/USBC -VBOF/EBI - NRD (io), 136 PD27/GPIO 123/USART0 - TXD/CANIF - RXLINE[0]/EBI -NCS[1]/TC0 - A0/MACB - RX_ER (io), 137 PD28/GPIO 124/USART0 - RXD/CANIF - TXLINE[0]/EBI -NCS[2]/TC0 - B0/MACB - RX_DV (io), 138 PD29/GPIO 125/USART0 - CTS/EIC - EXTINT[6]/USART0 - CLK/TC0 - CLK0/MACB - TX_CLK/EVTO_N (io), 139 PD30/GPIO 126/USART0 - RTS/EIC - EXTINT[3]/EBI -NWAIT/TC0 - A1/MACB - TX_EN/MSEO[1] (io)
part E pins: 34 ADCVREFP (in), 35 ADCVREFN (in), 49 VBUS (in), 50 DM (io), 51 DP (io), 142 RESET_N/DATA (io)
part F pins: 5 VDDIO1 (power), 6 GNDIO1 (power), 37 GNDANA (power), 38 VDDANA (power), 52 GNDPLL (power), 53 VDDIN_5 (power), 54 VDDIN_33 (power), 55 VDDCORE (power), 56 GNDCORE (power), 75 VDDIO2 (power), 76 GNDIO2 (power), 103 VDDIO3 (power), 104 GNDIO3 (power), 118 VDDIO3 (power), 119 GNDIO3 (power)

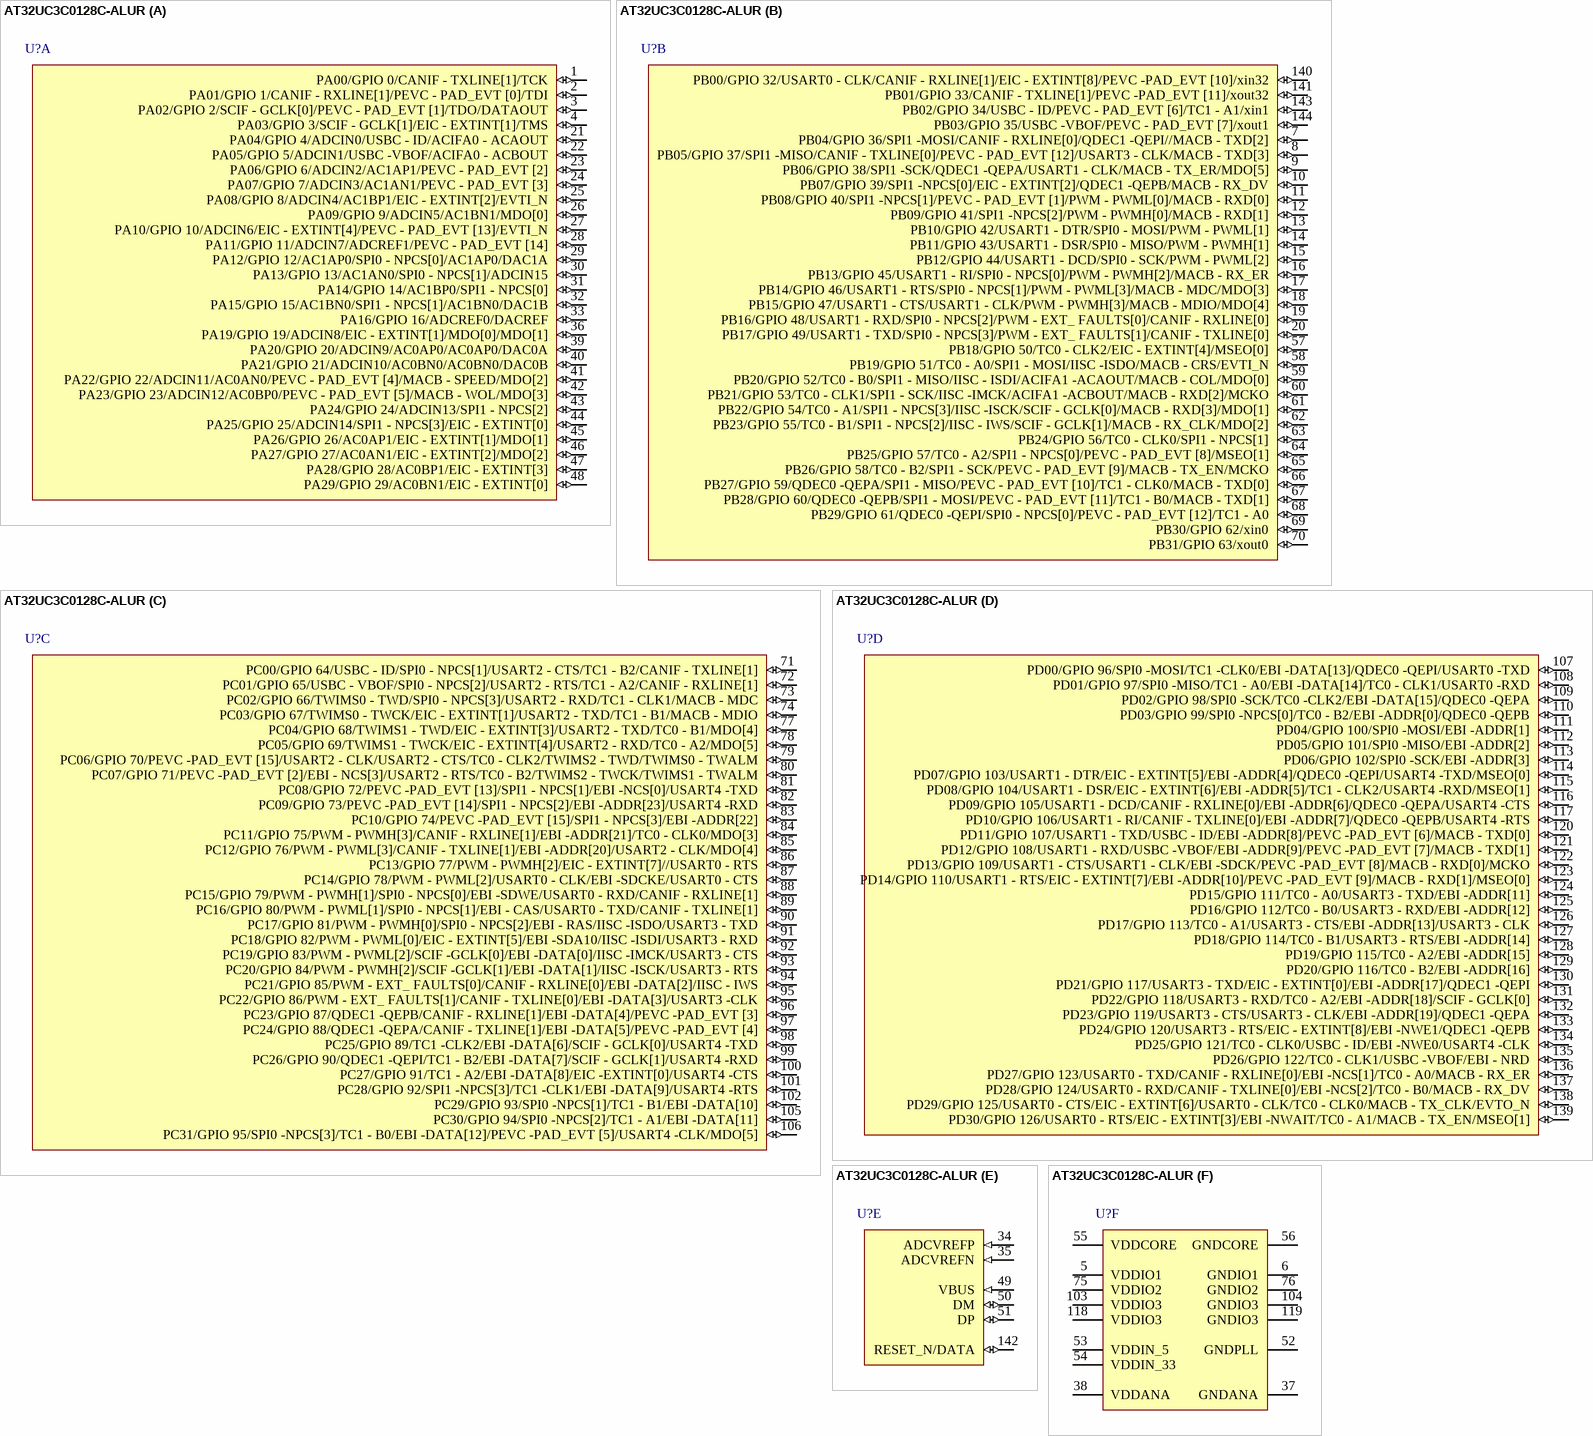
[diagram p72: symbol AT32UC3C0128C-ALUR]

## AT32UC3C0128C-ALUR
designator U?
32-bit AVR UC3 C Series Microcontroller, 128KB Flash, 36KB SRAM, 123 GPIO pins, Industrial Grade, 144- Pin LQFP, Reel; DatasheetVersion: revC, Aug-2011; PackageVersion: 2011; PackageReference: LQFP144; PackageDescription: 144-Pin Low Profile Plastic Quad Flat Pack, 20 x 20 x 1.4 mm Body, 0.5 mm Pitch; Code_JEDEC: MS-026-BFB; ComponentLink1Description: Manufacturer URL; ComponentLink1URL: http://www.atmel.com/; ComponentLink2Description: AT32UC3C Datasheet; ComponentLink2URL: http://www.atmel.com/dyn/resources/prod_documents/doc32117.pdf; ComponentLink3Description: AT32UC3C Summary; ComponentLink3URL: http://www.atmel.com/dyn/resources/prod_documents/32117s.pdf
footprint LQFP144_N (Thin QFP, 144-Leads, Body 20x20mm, Pitch 0.5mm, IPC Medium Density)
footprint LQFP144_L (Thin QFP, 144-Leads, Body 20x20mm, Pitch 0.5mm, IPC High Density)
footprint LQFP144_M (Thin QFP, 144-Leads, Body 20x20mm, Pitch 0.5mm, IPC Low Density)
part A pins: 1 PA00/GPIO 0/CANIF - TXLINE[1]/TCK (io), 2 PA01/GPIO 1/CANIF - RXLINE[1]/PEVC - PAD_EVT [0]/TDI (io), 3 PA02/GPIO 2/SCIF - GCLK[0]/PEVC - PAD_EVT [1]/TDO/DATAOUT (io), 4 PA03/GPIO 3/SCIF - GCLK[1]/EIC - EXTINT[1]/TMS (io), 21 PA04/GPIO 4/ADCIN0/USBC - ID/ACIFA0 - ACAOUT (io), 22 PA05/GPIO 5/ADCIN1/USBC -VBOF/ACIFA0 - ACBOUT (io), 23 PA06/GPIO 6/ADCIN2/AC1AP1/PEVC - PAD_EVT [2] (io), 24 PA07/GPIO 7/ADCIN3/AC1AN1/PEVC - PAD_EVT [3] (io), 25 PA08/GPIO 8/ADCIN4/AC1BP1/EIC - EXTINT[2]/EVTI_N (io), 26 PA09/GPIO 9/ADCIN5/AC1BN1/MDO[0] (io), 27 PA10/GPIO 10/ADCIN6/EIC - EXTINT[4]/PEVC - PAD_EVT [13]/EVTI_N (io), 28 PA11/GPIO 11/ADCIN7/ADCREF1/PEVC - PAD_EVT [14] (io), 29 PA12/GPIO 12/AC1AP0/SPI0 - NPCS[0]/AC1AP0/DAC1A (io), 30 PA13/GPIO 13/AC1AN0/SPI0 - NPCS[1]/ADCIN15 (io), 31 PA14/GPIO 14/AC1BP0/SPI1 - NPCS[0] (io), 32 PA15/GPIO 15/AC1BN0/SPI1 - NPCS[1]/AC1BN0/DAC1B (io), 33 PA16/GPIO 16/ADCREF0/DACREF (io), 36 PA19/GPIO 19/ADCIN8/EIC - EXTINT[1]/MDO[0]/MDO[1] (io), 39 PA20/GPIO 20/ADCIN9/AC0AP0/AC0AP0/DAC0A (io), 40 PA21/GPIO 21/ADCIN10/AC0BN0/AC0BN0/DAC0B (io), 41 PA22/GPIO 22/ADCIN11/AC0AN0/PEVC - PAD_EVT [4]/MACB - SPEED/MDO[2] (io), 42 PA23/GPIO 23/ADCIN12/AC0BP0/PEVC - PAD_EVT [5]/MACB - WOL/MDO[3] (io), 43 PA24/GPIO 24/ADCIN13/SPI1 - NPCS[2] (io), 44 PA25/GPIO 25/ADCIN14/SPI1 - NPCS[3]/EIC - EXTINT[0] (io), 45 PA26/GPIO 26/AC0AP1/EIC - EXTINT[1]/MDO[1] (io), 46 PA27/GPIO 27/AC0AN1/EIC - EXTINT[2]/MDO[2] (io), 47 PA28/GPIO 28/AC0BP1/EIC - EXTINT[3] (io), 48 PA29/GPIO 29/AC0BN1/EIC - EXTINT[0] (io)
part B pins: 7 PB04/GPIO 36/SPI1 -MOSI/CANIF - RXLINE[0]/QDEC1 -QEPI//MACB - TXD[2] (io), 8 PB05/GPIO 37/SPI1 -MISO/CANIF - TXLINE[0]/PEVC - PAD_EVT [12]/USART3 - CLK/MACB - TXD[3] (io), 9 PB06/GPIO 38/SPI1 -SCK/QDEC1 -QEPA/USART1 - CLK/MACB - TX_ER/MDO[5] (io), 10 PB07/GPIO 39/SPI1 -NPCS[0]/EIC - EXTINT[2]/QDEC1 -QEPB/MACB - RX_DV (io), 11 PB08/GPIO 40/SPI1 -NPCS[1]/PEVC - PAD_EVT [1]/PWM - PWML[0]/MACB - RXD[0] (io), 12 PB09/GPIO 41/SPI1 -NPCS[2]/PWM - PWMH[0]/MACB - RXD[1] (io), 13 PB10/GPIO 42/USART1 - DTR/SPI0 - MOSI/PWM - PWML[1] (io), 14 PB11/GPIO 43/USART1 - DSR/SPI0 - MISO/PWM - PWMH[1] (io), 15 PB12/GPIO 44/USART1 - DCD/SPI0 - SCK/PWM - PWML[2] (io), 16 PB13/GPIO 45/USART1 - RI/SPI0 - NPCS[0]/PWM - PWMH[2]/MACB - RX_ER (io), 17 PB14/GPIO 46/USART1 - RTS/SPI0 - NPCS[1]/PWM - PWML[3]/MACB - MDC/MDO[3] (io), 18 PB15/GPIO 47/USART1 - CTS/USART1 - CLK/PWM - PWMH[3]/MACB - MDIO/MDO[4] (io), 19 PB16/GPIO 48/USART1 - RXD/SPI0 - NPCS[2]/PWM - EXT_ FAULTS[0]/CANIF - RXLINE[0] (io), 20 PB17/GPIO 49/USART1 - TXD/SPI0 - NPCS[3]/PWM - EXT_ FAULTS[1]/CANIF - TXLINE[0] (io), 57 PB18/GPIO 50/TC0 - CLK2/EIC - EXTINT[4]/MSEO[0] (io), 58 PB19/GPIO 51/TC0 - A0/SPI1 - MOSI/IISC -ISDO/MACB - CRS/EVTI_N (io), 59 PB20/GPIO 52/TC0 - B0/SPI1 - MISO/IISC - ISDI/ACIFA1 -ACAOUT/MACB - COL/MDO[0] (io), 60 PB21/GPIO 53/TC0 - CLK1/SPI1 - SCK/IISC -IMCK/ACIFA1 -ACBOUT/MACB - RXD[2]/MCKO (io), 61 PB22/GPIO 54/TC0 - A1/SPI1 - NPCS[3]/IISC -ISCK/SCIF - GCLK[0]/MACB - RXD[3]/MDO[1] (io), 62 PB23/GPIO 55/TC0 - B1/SPI1 - NPCS[2]/IISC - IWS/SCIF - GCLK[1]/MACB - RX_CLK/MDO[2] (io), 63 PB24/GPIO 56/TC0 - CLK0/SPI1 - NPCS[1] (io), 64 PB25/GPIO 57/TC0 - A2/SPI1 - NPCS[0]/PEVC - PAD_EVT [8]/MSEO[1] (io), 65 PB26/GPIO 58/TC0 - B2/SPI1 - SCK/PEVC - PAD_EVT [9]/MACB - TX_EN/MCKO (io), 66 PB27/GPIO 59/QDEC0 -QEPA/SPI1 - MISO/PEVC - PAD_EVT [10]/TC1 - CLK0/MACB - TXD[0] (io), 67 PB28/GPIO 60/QDEC0 -QEPB/SPI1 - MOSI/PEVC - PAD_EVT [11]/TC1 - B0/MACB - TXD[1] (io), 68 PB29/GPIO 61/QDEC0 -QEPI/SPI0 - NPCS[0]/PEVC - PAD_EVT [12]/TC1 - A0 (io), 69 PB30/GPIO 62/xin0 (io), 70 PB31/GPIO 63/xout0 (io), 140 PB00/GPIO 32/USART0 - CLK/CANIF - RXLINE[1]/EIC - EXTINT[8]/PEVC -PAD_EVT [10]/xin32 (io), 141 PB01/GPIO 33/CANIF - TXLINE[1]/PEVC -PAD_EVT [11]/xout32 (io), 143 PB02/GPIO 34/USBC - ID/PEVC - PAD_EVT [6]/TC1 - A1/xin1 (io), 144 PB03/GPIO 35/USBC -VBOF/PEVC - PAD_EVT [7]/xout1 (io)
part C pins: 71 PC00/GPIO 64/USBC - ID/SPI0 - NPCS[1]/USART2 - CTS/TC1 - B2/CANIF - TXLINE[1] (io), 72 PC01/GPIO 65/USBC - VBOF/SPI0 - NPCS[2]/USART2 - RTS/TC1 - A2/CANIF - RXLINE[1] (io), 73 PC02/GPIO 66/TWIMS0 - TWD/SPI0 - NPCS[3]/USART2 - RXD/TC1 - CLK1/MACB - MDC (io), 74 PC03/GPIO 67/TWIMS0 - TWCK/EIC - EXTINT[1]/USART2 - TXD/TC1 - B1/MACB - MDIO (io), 77 PC04/GPIO 68/TWIMS1 - TWD/EIC - EXTINT[3]/USART2 - TXD/TC0 - B1/MDO[4] (io), 78 PC05/GPIO 69/TWIMS1 - TWCK/EIC - EXTINT[4]/USART2 - RXD/TC0 - A2/MDO[5] (io), 79 PC06/GPIO 70/PEVC -PAD_EVT [15]/USART2 - CLK/USART2 - CTS/TC0 - CLK2/TWIMS2 - TWD/TWIMS0 - TWALM (io), 80 PC07/GPIO 71/PEVC -PAD_EVT [2]/EBI - NCS[3]/USART2 - RTS/TC0 - B2/TWIMS2 - TWCK/TWIMS1 - TWALM (io), 81 PC08/GPIO 72/PEVC -PAD_EVT [13]/SPI1 - NPCS[1]/EBI -NCS[0]/USART4 -TXD (io), 82 PC09/GPIO 73/PEVC -PAD_EVT [14]/SPI1 - NPCS[2]/EBI -ADDR[23]/USART4 -RXD (io), 83 PC10/GPIO 74/PEVC -PAD_EVT [15]/SPI1 - NPCS[3]/EBI -ADDR[22] (io), 84 PC11/GPIO 75/PWM - PWMH[3]/CANIF - RXLINE[1]/EBI -ADDR[21]/TC0 - CLK0/MDO[3] (io), 85 PC12/GPIO 76/PWM - PWML[3]/CANIF - TXLINE[1]/EBI -ADDR[20]/USART2 - CLK/MDO[4] (io), 86 PC13/GPIO 77/PWM - PWMH[2]/EIC - EXTINT[7]//USART0 - RTS (io), 87 PC14/GPIO 78/PWM - PWML[2]/USART0 - CLK/EBI -SDCKE/USART0 - CTS (io), 88 PC15/GPIO 79/PWM - PWMH[1]/SPI0 - NPCS[0]/EBI -SDWE/USART0 - RXD/CANIF - RXLINE[1] (io), 89 PC16/GPIO 80/PWM - PWML[1]/SPI0 - NPCS[1]/EBI - CAS/USART0 - TXD/CANIF - TXLINE[1] (io), 90 PC17/GPIO 81/PWM - PWMH[0]/SPI0 - NPCS[2]/EBI - RAS/IISC -ISDO/USART3 - TXD (io), 91 PC18/GPIO 82/PWM - PWML[0]/EIC - EXTINT[5]/EBI -SDA10/IISC -ISDI/USART3 - RXD (io), 92 PC19/GPIO 83/PWM - PWML[2]/SCIF -GCLK[0]/EBI -DATA[0]/IISC -IMCK/USART3 - CTS (io), 93 PC20/GPIO 84/PWM - PWMH[2]/SCIF -GCLK[1]/EBI -DATA[1]/IISC -ISCK/USART3 - RTS (io), 94 PC21/GPIO 85/PWM - EXT_ FAULTS[0]/CANIF - RXLINE[0]/EBI -DATA[2]/IISC - IWS (io), 95 PC22/GPIO 86/PWM - EXT_ FAULTS[1]/CANIF - TXLINE[0]/EBI -DATA[3]/USART3 -CLK (io), 96 PC23/GPIO 87/QDEC1 -QEPB/CANIF - RXLINE[1]/EBI -DATA[4]/PEVC -PAD_EVT [3] (io), 97 PC24/GPIO 88/QDEC1 -QEPA/CANIF - TXLINE[1]/EBI -DATA[5]/PEVC -PAD_EVT [4] (io), 98 PC25/GPIO 89/TC1 -CLK2/EBI -DATA[6]/SCIF - GCLK[0]/USART4 -TXD (io), 99 PC26/GPIO 90/QDEC1 -QEPI/TC1 - B2/EBI -DATA[7]/SCIF - GCLK[1]/USART4 -RXD (io), 100 PC27/GPIO 91/TC1 - A2/EBI -DATA[8]/EIC -EXTINT[0]/USART4 -CTS (io), 101 PC28/GPIO 92/SPI1 -NPCS[3]/TC1 -CLK1/EBI -DATA[9]/USART4 -RTS (io), 102 PC29/GPIO 93/SPI0 -NPCS[1]/TC1 - B1/EBI -DATA[10] (io), 105 PC30/GPIO 94/SPI0 -NPCS[2]/TC1 - A1/EBI -DATA[11] (io), 106 PC31/GPIO 95/SPI0 -NPCS[3]/TC1 - B0/EBI -DATA[12]/PEVC -PAD_EVT [5]/USART4 -CLK/MDO[5] (io)
part D pins: 107 PD00/GPIO 96/SPI0 -MOSI/TC1 -CLK0/EBI -DATA[13]/QDEC0 -QEPI/USART0 -TXD (io), 108 PD01/GPIO 97/SPI0 -MISO/TC1 - A0/EBI -DATA[14]/TC0 - CLK1/USART0 -RXD (io), 109 PD02/GPIO 98/SPI0 -SCK/TC0 -CLK2/EBI -DATA[15]/QDEC0 -QEPA (io), 110 PD03/GPIO 99/SPI0 -NPCS[0]/TC0 - B2/EBI -ADDR[0]/QDEC0 -QEPB (io), 111 PD04/GPIO 100/SPI0 -MOSI/EBI -ADDR[1] (io), 112 PD05/GPIO 101/SPI0 -MISO/EBI -ADDR[2] (io), 113 PD06/GPIO 102/SPI0 -SCK/EBI -ADDR[3] (io), 114 PD07/GPIO 103/USART1 - DTR/EIC - EXTINT[5]/EBI -ADDR[4]/QDEC0 -QEPI/USART4 -TXD/MSEO[0] (io), 115 PD08/GPIO 104/USART1 - DSR/EIC - EXTINT[6]/EBI -ADDR[5]/TC1 - CLK2/USART4 -RXD/MSEO[1] (io), 116 PD09/GPIO 105/USART1 - DCD/CANIF - RXLINE[0]/EBI -ADDR[6]/QDEC0 -QEPA/USART4 -CTS (io), 117 PD10/GPIO 106/USART1 - RI/CANIF - TXLINE[0]/EBI -ADDR[7]/QDEC0 -QEPB/USART4 -RTS (io), 120 PD11/GPIO 107/USART1 - TXD/USBC - ID/EBI -ADDR[8]/PEVC -PAD_EVT [6]/MACB - TXD[0] (io), 121 PD12/GPIO 108/USART1 - RXD/USBC -VBOF/EBI -ADDR[9]/PEVC -PAD_EVT [7]/MACB - TXD[1] (io), 122 PD13/GPIO 109/USART1 - CTS/USART1 - CLK/EBI -SDCK/PEVC -PAD_EVT [8]/MACB - RXD[0]/MCKO (io), 123 PD14/GPIO 110/USART1 - RTS/EIC - EXTINT[7]/EBI -ADDR[10]/PEVC -PAD_EVT [9]/MACB - RXD[1]/MSEO[0] (io), 124 PD15/GPIO 111/TC0 - A0/USART3 - TXD/EBI -ADDR[11] (io), 125 PD16/GPIO 112/TC0 - B0/USART3 - RXD/EBI -ADDR[12] (io), 126 PD17/GPIO 113/TC0 - A1/USART3 - CTS/EBI -ADDR[13]/USART3 - CLK (io), 127 PD18/GPIO 114/TC0 - B1/USART3 - RTS/EBI -ADDR[14] (io), 128 PD19/GPIO 115/TC0 - A2/EBI -ADDR[15] (io), 129 PD20/GPIO 116/TC0 - B2/EBI -ADDR[16] (io), 130 PD21/GPIO 117/USART3 - TXD/EIC - EXTINT[0]/EBI -ADDR[17]/QDEC1 -QEPI (io), 131 PD22/GPIO 118/USART3 - RXD/TC0 - A2/EBI -ADDR[18]/SCIF - GCLK[0] (io), 132 PD23/GPIO 119/USART3 - CTS/USART3 - CLK/EBI -ADDR[19]/QDEC1 -QEPA (io), 133 PD24/GPIO 120/USART3 - RTS/EIC - EXTINT[8]/EBI -NWE1/QDEC1 -QEPB (io), 134 PD25/GPIO 121/TC0 - CLK0/USBC - ID/EBI -NWE0/USART4 -CLK (io), 135 PD26/GPIO 122/TC0 - CLK1/USBC -VBOF/EBI - NRD (io), 136 PD27/GPIO 123/USART0 - TXD/CANIF - RXLINE[0]/EBI -NCS[1]/TC0 - A0/MACB - RX_ER (io), 137 PD28/GPIO 124/USART0 - RXD/CANIF - TXLINE[0]/EBI -NCS[2]/TC0 - B0/MACB - RX_DV (io), 138 PD29/GPIO 125/USART0 - CTS/EIC - EXTINT[6]/USART0 - CLK/TC0 - CLK0/MACB - TX_CLK/EVTO_N (io), 139 PD30/GPIO 126/USART0 - RTS/EIC - EXTINT[3]/EBI -NWAIT/TC0 - A1/MACB - TX_EN/MSEO[1] (io)
part E pins: 34 ADCVREFP (in), 35 ADCVREFN (in), 49 VBUS (in), 50 DM (io), 51 DP (io), 142 RESET_N/DATA (io)
part F pins: 5 VDDIO1 (power), 6 GNDIO1 (power), 37 GNDANA (power), 38 VDDANA (power), 52 GNDPLL (power), 53 VDDIN_5 (power), 54 VDDIN_33 (power), 55 VDDCORE (power), 56 GNDCORE (power), 75 VDDIO2 (power), 76 GNDIO2 (power), 103 VDDIO3 (power), 104 GNDIO3 (power), 118 VDDIO3 (power), 119 GNDIO3 (power)

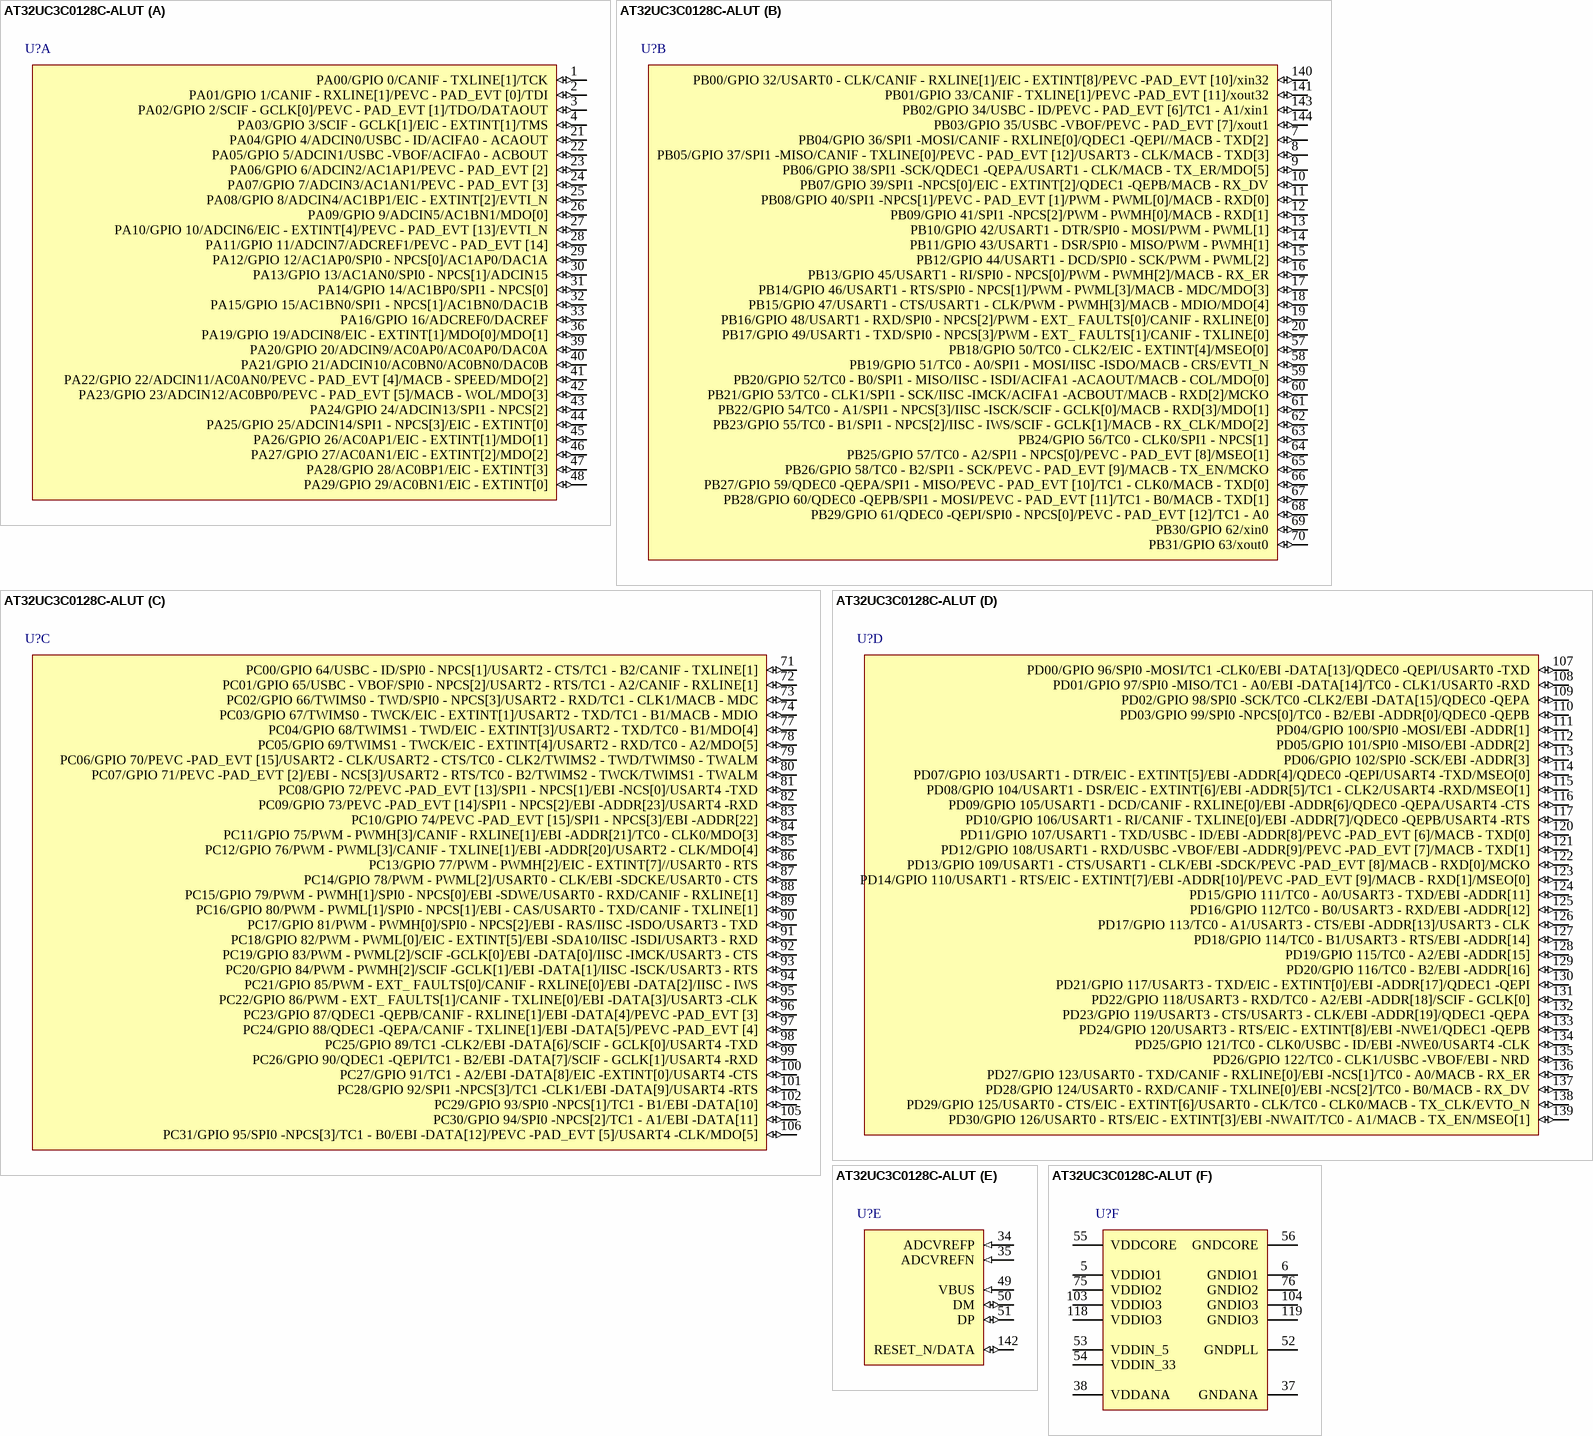
[diagram p73: symbol AT32UC3C0128C-ALUT]

## AT32UC3C0128C-ALUT
designator U?
32-bit AVR UC3 C Series Microcontroller, 128KB Flash, 36KB SRAM, 123 GPIO pins, Industrial Grade, 144- Pin LQFP, Tray; DatasheetVersion: revC, Aug-2011; PackageVersion: 2011; PackageReference: LQFP144; PackageDescription: 144-Pin Low Profile Plastic Quad Flat Pack, 20 x 20 x 1.4 mm Body, 0.5 mm Pitch; Code_JEDEC: MS-026-BFB; ComponentLink1Description: Manufacturer URL; ComponentLink1URL: http://www.atmel.com/; ComponentLink2Description: AT32UC3C Datasheet; ComponentLink2URL: http://www.atmel.com/dyn/resources/prod_documents/doc32117.pdf; ComponentLink3Description: AT32UC3C Summary; ComponentLink3URL: http://www.atmel.com/dyn/resources/prod_documents/32117s.pdf
footprint LQFP144_N (Thin QFP, 144-Leads, Body 20x20mm, Pitch 0.5mm, IPC Medium Density)
footprint LQFP144_L (Thin QFP, 144-Leads, Body 20x20mm, Pitch 0.5mm, IPC High Density)
footprint LQFP144_M (Thin QFP, 144-Leads, Body 20x20mm, Pitch 0.5mm, IPC Low Density)
part A pins: 1 PA00/GPIO 0/CANIF - TXLINE[1]/TCK (io), 2 PA01/GPIO 1/CANIF - RXLINE[1]/PEVC - PAD_EVT [0]/TDI (io), 3 PA02/GPIO 2/SCIF - GCLK[0]/PEVC - PAD_EVT [1]/TDO/DATAOUT (io), 4 PA03/GPIO 3/SCIF - GCLK[1]/EIC - EXTINT[1]/TMS (io), 21 PA04/GPIO 4/ADCIN0/USBC - ID/ACIFA0 - ACAOUT (io), 22 PA05/GPIO 5/ADCIN1/USBC -VBOF/ACIFA0 - ACBOUT (io), 23 PA06/GPIO 6/ADCIN2/AC1AP1/PEVC - PAD_EVT [2] (io), 24 PA07/GPIO 7/ADCIN3/AC1AN1/PEVC - PAD_EVT [3] (io), 25 PA08/GPIO 8/ADCIN4/AC1BP1/EIC - EXTINT[2]/EVTI_N (io), 26 PA09/GPIO 9/ADCIN5/AC1BN1/MDO[0] (io), 27 PA10/GPIO 10/ADCIN6/EIC - EXTINT[4]/PEVC - PAD_EVT [13]/EVTI_N (io), 28 PA11/GPIO 11/ADCIN7/ADCREF1/PEVC - PAD_EVT [14] (io), 29 PA12/GPIO 12/AC1AP0/SPI0 - NPCS[0]/AC1AP0/DAC1A (io), 30 PA13/GPIO 13/AC1AN0/SPI0 - NPCS[1]/ADCIN15 (io), 31 PA14/GPIO 14/AC1BP0/SPI1 - NPCS[0] (io), 32 PA15/GPIO 15/AC1BN0/SPI1 - NPCS[1]/AC1BN0/DAC1B (io), 33 PA16/GPIO 16/ADCREF0/DACREF (io), 36 PA19/GPIO 19/ADCIN8/EIC - EXTINT[1]/MDO[0]/MDO[1] (io), 39 PA20/GPIO 20/ADCIN9/AC0AP0/AC0AP0/DAC0A (io), 40 PA21/GPIO 21/ADCIN10/AC0BN0/AC0BN0/DAC0B (io), 41 PA22/GPIO 22/ADCIN11/AC0AN0/PEVC - PAD_EVT [4]/MACB - SPEED/MDO[2] (io), 42 PA23/GPIO 23/ADCIN12/AC0BP0/PEVC - PAD_EVT [5]/MACB - WOL/MDO[3] (io), 43 PA24/GPIO 24/ADCIN13/SPI1 - NPCS[2] (io), 44 PA25/GPIO 25/ADCIN14/SPI1 - NPCS[3]/EIC - EXTINT[0] (io), 45 PA26/GPIO 26/AC0AP1/EIC - EXTINT[1]/MDO[1] (io), 46 PA27/GPIO 27/AC0AN1/EIC - EXTINT[2]/MDO[2] (io), 47 PA28/GPIO 28/AC0BP1/EIC - EXTINT[3] (io), 48 PA29/GPIO 29/AC0BN1/EIC - EXTINT[0] (io)
part B pins: 7 PB04/GPIO 36/SPI1 -MOSI/CANIF - RXLINE[0]/QDEC1 -QEPI//MACB - TXD[2] (io), 8 PB05/GPIO 37/SPI1 -MISO/CANIF - TXLINE[0]/PEVC - PAD_EVT [12]/USART3 - CLK/MACB - TXD[3] (io), 9 PB06/GPIO 38/SPI1 -SCK/QDEC1 -QEPA/USART1 - CLK/MACB - TX_ER/MDO[5] (io), 10 PB07/GPIO 39/SPI1 -NPCS[0]/EIC - EXTINT[2]/QDEC1 -QEPB/MACB - RX_DV (io), 11 PB08/GPIO 40/SPI1 -NPCS[1]/PEVC - PAD_EVT [1]/PWM - PWML[0]/MACB - RXD[0] (io), 12 PB09/GPIO 41/SPI1 -NPCS[2]/PWM - PWMH[0]/MACB - RXD[1] (io), 13 PB10/GPIO 42/USART1 - DTR/SPI0 - MOSI/PWM - PWML[1] (io), 14 PB11/GPIO 43/USART1 - DSR/SPI0 - MISO/PWM - PWMH[1] (io), 15 PB12/GPIO 44/USART1 - DCD/SPI0 - SCK/PWM - PWML[2] (io), 16 PB13/GPIO 45/USART1 - RI/SPI0 - NPCS[0]/PWM - PWMH[2]/MACB - RX_ER (io), 17 PB14/GPIO 46/USART1 - RTS/SPI0 - NPCS[1]/PWM - PWML[3]/MACB - MDC/MDO[3] (io), 18 PB15/GPIO 47/USART1 - CTS/USART1 - CLK/PWM - PWMH[3]/MACB - MDIO/MDO[4] (io), 19 PB16/GPIO 48/USART1 - RXD/SPI0 - NPCS[2]/PWM - EXT_ FAULTS[0]/CANIF - RXLINE[0] (io), 20 PB17/GPIO 49/USART1 - TXD/SPI0 - NPCS[3]/PWM - EXT_ FAULTS[1]/CANIF - TXLINE[0] (io), 57 PB18/GPIO 50/TC0 - CLK2/EIC - EXTINT[4]/MSEO[0] (io), 58 PB19/GPIO 51/TC0 - A0/SPI1 - MOSI/IISC -ISDO/MACB - CRS/EVTI_N (io), 59 PB20/GPIO 52/TC0 - B0/SPI1 - MISO/IISC - ISDI/ACIFA1 -ACAOUT/MACB - COL/MDO[0] (io), 60 PB21/GPIO 53/TC0 - CLK1/SPI1 - SCK/IISC -IMCK/ACIFA1 -ACBOUT/MACB - RXD[2]/MCKO (io), 61 PB22/GPIO 54/TC0 - A1/SPI1 - NPCS[3]/IISC -ISCK/SCIF - GCLK[0]/MACB - RXD[3]/MDO[1] (io), 62 PB23/GPIO 55/TC0 - B1/SPI1 - NPCS[2]/IISC - IWS/SCIF - GCLK[1]/MACB - RX_CLK/MDO[2] (io), 63 PB24/GPIO 56/TC0 - CLK0/SPI1 - NPCS[1] (io), 64 PB25/GPIO 57/TC0 - A2/SPI1 - NPCS[0]/PEVC - PAD_EVT [8]/MSEO[1] (io), 65 PB26/GPIO 58/TC0 - B2/SPI1 - SCK/PEVC - PAD_EVT [9]/MACB - TX_EN/MCKO (io), 66 PB27/GPIO 59/QDEC0 -QEPA/SPI1 - MISO/PEVC - PAD_EVT [10]/TC1 - CLK0/MACB - TXD[0] (io), 67 PB28/GPIO 60/QDEC0 -QEPB/SPI1 - MOSI/PEVC - PAD_EVT [11]/TC1 - B0/MACB - TXD[1] (io), 68 PB29/GPIO 61/QDEC0 -QEPI/SPI0 - NPCS[0]/PEVC - PAD_EVT [12]/TC1 - A0 (io), 69 PB30/GPIO 62/xin0 (io), 70 PB31/GPIO 63/xout0 (io), 140 PB00/GPIO 32/USART0 - CLK/CANIF - RXLINE[1]/EIC - EXTINT[8]/PEVC -PAD_EVT [10]/xin32 (io), 141 PB01/GPIO 33/CANIF - TXLINE[1]/PEVC -PAD_EVT [11]/xout32 (io), 143 PB02/GPIO 34/USBC - ID/PEVC - PAD_EVT [6]/TC1 - A1/xin1 (io), 144 PB03/GPIO 35/USBC -VBOF/PEVC - PAD_EVT [7]/xout1 (io)
part C pins: 71 PC00/GPIO 64/USBC - ID/SPI0 - NPCS[1]/USART2 - CTS/TC1 - B2/CANIF - TXLINE[1] (io), 72 PC01/GPIO 65/USBC - VBOF/SPI0 - NPCS[2]/USART2 - RTS/TC1 - A2/CANIF - RXLINE[1] (io), 73 PC02/GPIO 66/TWIMS0 - TWD/SPI0 - NPCS[3]/USART2 - RXD/TC1 - CLK1/MACB - MDC (io), 74 PC03/GPIO 67/TWIMS0 - TWCK/EIC - EXTINT[1]/USART2 - TXD/TC1 - B1/MACB - MDIO (io), 77 PC04/GPIO 68/TWIMS1 - TWD/EIC - EXTINT[3]/USART2 - TXD/TC0 - B1/MDO[4] (io), 78 PC05/GPIO 69/TWIMS1 - TWCK/EIC - EXTINT[4]/USART2 - RXD/TC0 - A2/MDO[5] (io), 79 PC06/GPIO 70/PEVC -PAD_EVT [15]/USART2 - CLK/USART2 - CTS/TC0 - CLK2/TWIMS2 - TWD/TWIMS0 - TWALM (io), 80 PC07/GPIO 71/PEVC -PAD_EVT [2]/EBI - NCS[3]/USART2 - RTS/TC0 - B2/TWIMS2 - TWCK/TWIMS1 - TWALM (io), 81 PC08/GPIO 72/PEVC -PAD_EVT [13]/SPI1 - NPCS[1]/EBI -NCS[0]/USART4 -TXD (io), 82 PC09/GPIO 73/PEVC -PAD_EVT [14]/SPI1 - NPCS[2]/EBI -ADDR[23]/USART4 -RXD (io), 83 PC10/GPIO 74/PEVC -PAD_EVT [15]/SPI1 - NPCS[3]/EBI -ADDR[22] (io), 84 PC11/GPIO 75/PWM - PWMH[3]/CANIF - RXLINE[1]/EBI -ADDR[21]/TC0 - CLK0/MDO[3] (io), 85 PC12/GPIO 76/PWM - PWML[3]/CANIF - TXLINE[1]/EBI -ADDR[20]/USART2 - CLK/MDO[4] (io), 86 PC13/GPIO 77/PWM - PWMH[2]/EIC - EXTINT[7]//USART0 - RTS (io), 87 PC14/GPIO 78/PWM - PWML[2]/USART0 - CLK/EBI -SDCKE/USART0 - CTS (io), 88 PC15/GPIO 79/PWM - PWMH[1]/SPI0 - NPCS[0]/EBI -SDWE/USART0 - RXD/CANIF - RXLINE[1] (io), 89 PC16/GPIO 80/PWM - PWML[1]/SPI0 - NPCS[1]/EBI - CAS/USART0 - TXD/CANIF - TXLINE[1] (io), 90 PC17/GPIO 81/PWM - PWMH[0]/SPI0 - NPCS[2]/EBI - RAS/IISC -ISDO/USART3 - TXD (io), 91 PC18/GPIO 82/PWM - PWML[0]/EIC - EXTINT[5]/EBI -SDA10/IISC -ISDI/USART3 - RXD (io), 92 PC19/GPIO 83/PWM - PWML[2]/SCIF -GCLK[0]/EBI -DATA[0]/IISC -IMCK/USART3 - CTS (io), 93 PC20/GPIO 84/PWM - PWMH[2]/SCIF -GCLK[1]/EBI -DATA[1]/IISC -ISCK/USART3 - RTS (io), 94 PC21/GPIO 85/PWM - EXT_ FAULTS[0]/CANIF - RXLINE[0]/EBI -DATA[2]/IISC - IWS (io), 95 PC22/GPIO 86/PWM - EXT_ FAULTS[1]/CANIF - TXLINE[0]/EBI -DATA[3]/USART3 -CLK (io), 96 PC23/GPIO 87/QDEC1 -QEPB/CANIF - RXLINE[1]/EBI -DATA[4]/PEVC -PAD_EVT [3] (io), 97 PC24/GPIO 88/QDEC1 -QEPA/CANIF - TXLINE[1]/EBI -DATA[5]/PEVC -PAD_EVT [4] (io), 98 PC25/GPIO 89/TC1 -CLK2/EBI -DATA[6]/SCIF - GCLK[0]/USART4 -TXD (io), 99 PC26/GPIO 90/QDEC1 -QEPI/TC1 - B2/EBI -DATA[7]/SCIF - GCLK[1]/USART4 -RXD (io), 100 PC27/GPIO 91/TC1 - A2/EBI -DATA[8]/EIC -EXTINT[0]/USART4 -CTS (io), 101 PC28/GPIO 92/SPI1 -NPCS[3]/TC1 -CLK1/EBI -DATA[9]/USART4 -RTS (io), 102 PC29/GPIO 93/SPI0 -NPCS[1]/TC1 - B1/EBI -DATA[10] (io), 105 PC30/GPIO 94/SPI0 -NPCS[2]/TC1 - A1/EBI -DATA[11] (io), 106 PC31/GPIO 95/SPI0 -NPCS[3]/TC1 - B0/EBI -DATA[12]/PEVC -PAD_EVT [5]/USART4 -CLK/MDO[5] (io)
part D pins: 107 PD00/GPIO 96/SPI0 -MOSI/TC1 -CLK0/EBI -DATA[13]/QDEC0 -QEPI/USART0 -TXD (io), 108 PD01/GPIO 97/SPI0 -MISO/TC1 - A0/EBI -DATA[14]/TC0 - CLK1/USART0 -RXD (io), 109 PD02/GPIO 98/SPI0 -SCK/TC0 -CLK2/EBI -DATA[15]/QDEC0 -QEPA (io), 110 PD03/GPIO 99/SPI0 -NPCS[0]/TC0 - B2/EBI -ADDR[0]/QDEC0 -QEPB (io), 111 PD04/GPIO 100/SPI0 -MOSI/EBI -ADDR[1] (io), 112 PD05/GPIO 101/SPI0 -MISO/EBI -ADDR[2] (io), 113 PD06/GPIO 102/SPI0 -SCK/EBI -ADDR[3] (io), 114 PD07/GPIO 103/USART1 - DTR/EIC - EXTINT[5]/EBI -ADDR[4]/QDEC0 -QEPI/USART4 -TXD/MSEO[0] (io), 115 PD08/GPIO 104/USART1 - DSR/EIC - EXTINT[6]/EBI -ADDR[5]/TC1 - CLK2/USART4 -RXD/MSEO[1] (io), 116 PD09/GPIO 105/USART1 - DCD/CANIF - RXLINE[0]/EBI -ADDR[6]/QDEC0 -QEPA/USART4 -CTS (io), 117 PD10/GPIO 106/USART1 - RI/CANIF - TXLINE[0]/EBI -ADDR[7]/QDEC0 -QEPB/USART4 -RTS (io), 120 PD11/GPIO 107/USART1 - TXD/USBC - ID/EBI -ADDR[8]/PEVC -PAD_EVT [6]/MACB - TXD[0] (io), 121 PD12/GPIO 108/USART1 - RXD/USBC -VBOF/EBI -ADDR[9]/PEVC -PAD_EVT [7]/MACB - TXD[1] (io), 122 PD13/GPIO 109/USART1 - CTS/USART1 - CLK/EBI -SDCK/PEVC -PAD_EVT [8]/MACB - RXD[0]/MCKO (io), 123 PD14/GPIO 110/USART1 - RTS/EIC - EXTINT[7]/EBI -ADDR[10]/PEVC -PAD_EVT [9]/MACB - RXD[1]/MSEO[0] (io), 124 PD15/GPIO 111/TC0 - A0/USART3 - TXD/EBI -ADDR[11] (io), 125 PD16/GPIO 112/TC0 - B0/USART3 - RXD/EBI -ADDR[12] (io), 126 PD17/GPIO 113/TC0 - A1/USART3 - CTS/EBI -ADDR[13]/USART3 - CLK (io), 127 PD18/GPIO 114/TC0 - B1/USART3 - RTS/EBI -ADDR[14] (io), 128 PD19/GPIO 115/TC0 - A2/EBI -ADDR[15] (io), 129 PD20/GPIO 116/TC0 - B2/EBI -ADDR[16] (io), 130 PD21/GPIO 117/USART3 - TXD/EIC - EXTINT[0]/EBI -ADDR[17]/QDEC1 -QEPI (io), 131 PD22/GPIO 118/USART3 - RXD/TC0 - A2/EBI -ADDR[18]/SCIF - GCLK[0] (io), 132 PD23/GPIO 119/USART3 - CTS/USART3 - CLK/EBI -ADDR[19]/QDEC1 -QEPA (io), 133 PD24/GPIO 120/USART3 - RTS/EIC - EXTINT[8]/EBI -NWE1/QDEC1 -QEPB (io), 134 PD25/GPIO 121/TC0 - CLK0/USBC - ID/EBI -NWE0/USART4 -CLK (io), 135 PD26/GPIO 122/TC0 - CLK1/USBC -VBOF/EBI - NRD (io), 136 PD27/GPIO 123/USART0 - TXD/CANIF - RXLINE[0]/EBI -NCS[1]/TC0 - A0/MACB - RX_ER (io), 137 PD28/GPIO 124/USART0 - RXD/CANIF - TXLINE[0]/EBI -NCS[2]/TC0 - B0/MACB - RX_DV (io), 138 PD29/GPIO 125/USART0 - CTS/EIC - EXTINT[6]/USART0 - CLK/TC0 - CLK0/MACB - TX_CLK/EVTO_N (io), 139 PD30/GPIO 126/USART0 - RTS/EIC - EXTINT[3]/EBI -NWAIT/TC0 - A1/MACB - TX_EN/MSEO[1] (io)
part E pins: 34 ADCVREFP (in), 35 ADCVREFN (in), 49 VBUS (in), 50 DM (io), 51 DP (io), 142 RESET_N/DATA (io)
part F pins: 5 VDDIO1 (power), 6 GNDIO1 (power), 37 GNDANA (power), 38 VDDANA (power), 52 GNDPLL (power), 53 VDDIN_5 (power), 54 VDDIN_33 (power), 55 VDDCORE (power), 56 GNDCORE (power), 75 VDDIO2 (power), 76 GNDIO2 (power), 103 VDDIO3 (power), 104 GNDIO3 (power), 118 VDDIO3 (power), 119 GNDIO3 (power)

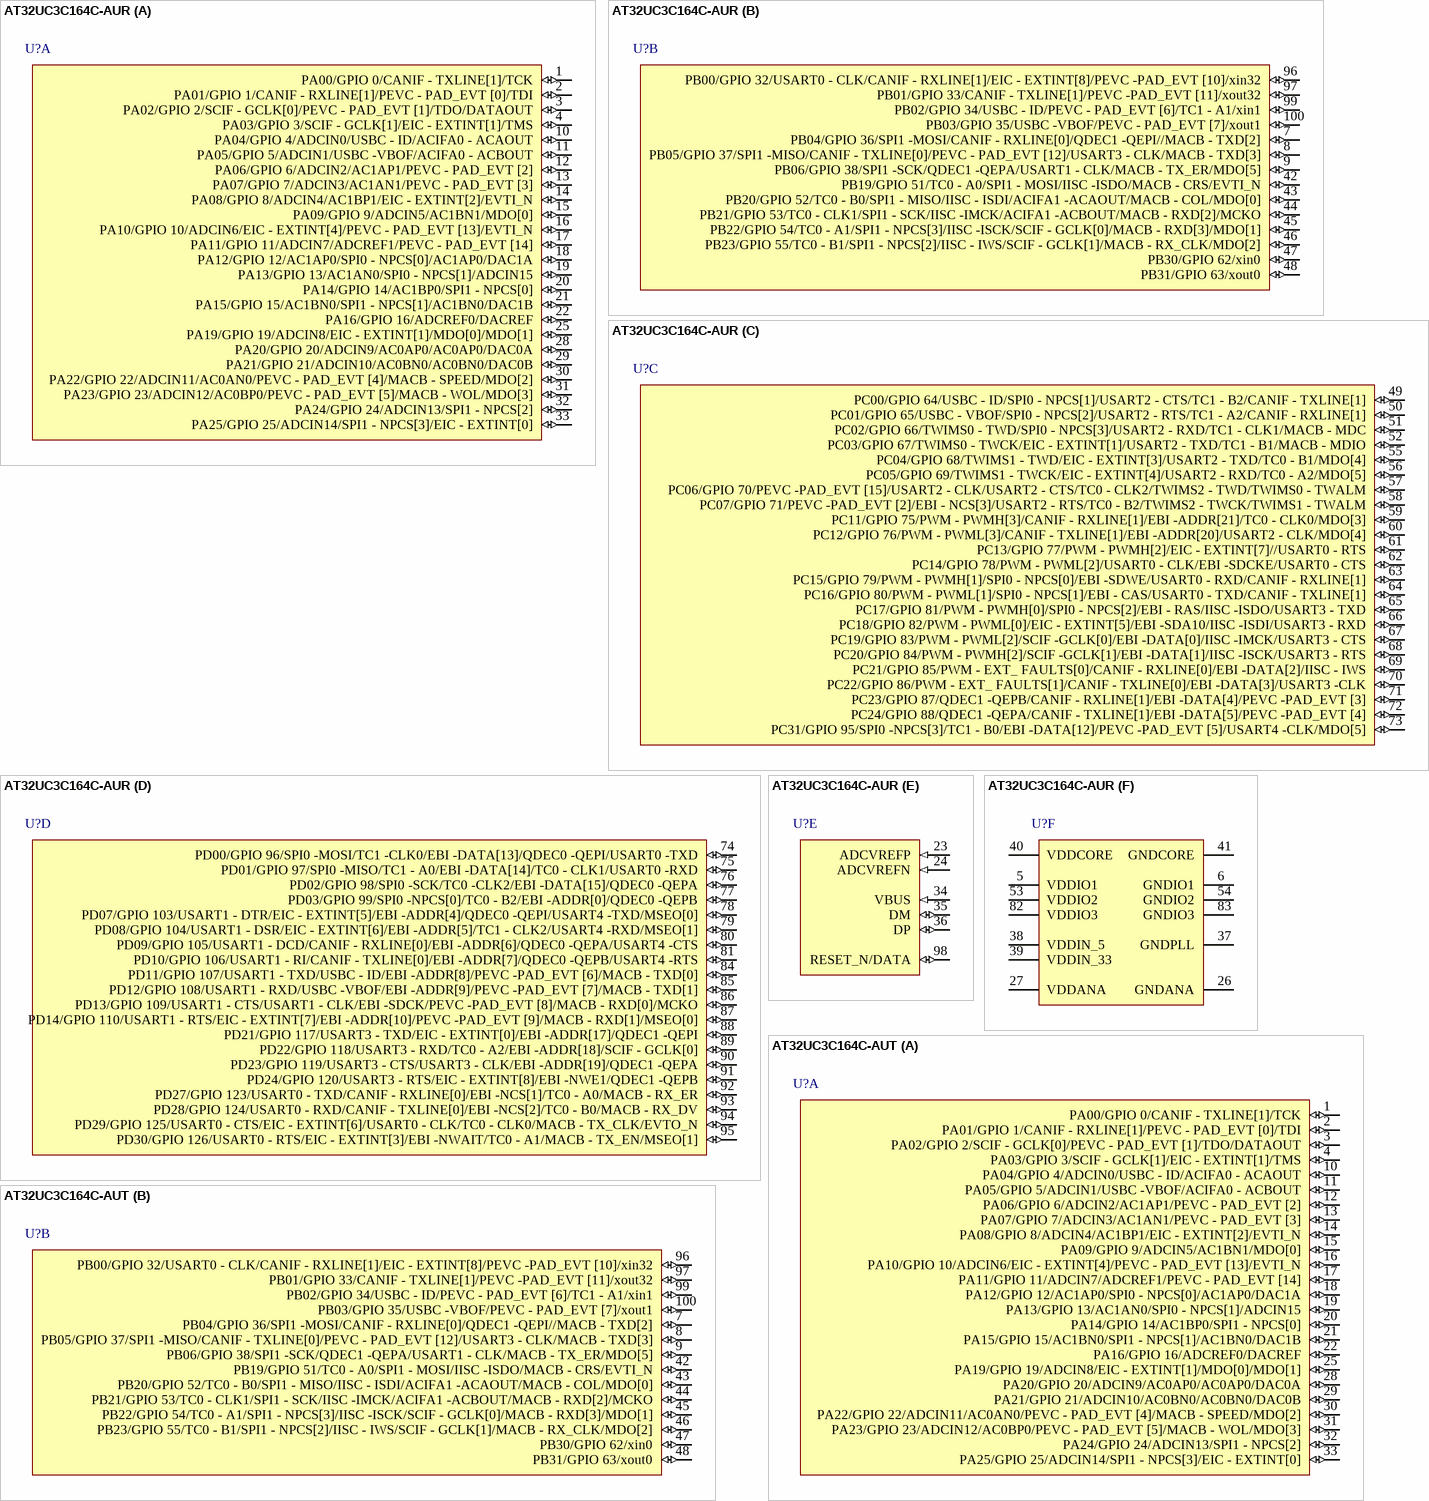
[diagram p74: symbols AT32UC3C164C-AUR to AT32UC3C164C-AUT]

## AT32UC3C164C-AUR
designator U?
32-bit AVR UC3 C Series Microcontroller, 64KB Flash, 20KB SRAM, 81 GPIO pins, Industrial Grade, 100- Pin TQFP, Reel; DatasheetVersion: revC, Aug-2011; PackageVersion: 2011; PackageReference: TQFP100; PackageDescription: 100-Pin Thin Plastic Quad Flat Pack, 14 x 14 x 1 mm Body, 0.5 mm Pitch; Code_JEDEC: MS-026-AED; ComponentLink1Description: Manufacturer URL; ComponentLink1URL: http://www.atmel.com/; ComponentLink2Description: AT32UC3C Datasheet; ComponentLink2URL: http://www.atmel.com/dyn/resources/prod_documents/doc32117.pdf; ComponentLink3Description: AT32UC3C Summary; ComponentLink3URL: http://www.atmel.com/dyn/resources/prod_documents/32117s.pdf
footprint TQFP100_N (Thin QFP, 100-Leads, Body 14x14mm, Pitch 0.5mm, IPC Medium Density)
footprint TQFP100_L (Thin QFP, 100-Leads, Body 14x14mm, Pitch 0.5mm, IPC High Density)
footprint TQFP100_M (Thin QFP, 100-Leads, Body 14x14mm, Pitch 0.5mm, IPC Low Density)
part A pins: 1 PA00/GPIO 0/CANIF - TXLINE[1]/TCK (io), 2 PA01/GPIO 1/CANIF - RXLINE[1]/PEVC - PAD_EVT [0]/TDI (io), 3 PA02/GPIO 2/SCIF - GCLK[0]/PEVC - PAD_EVT [1]/TDO/DATAOUT (io), 4 PA03/GPIO 3/SCIF - GCLK[1]/EIC - EXTINT[1]/TMS (io), 10 PA04/GPIO 4/ADCIN0/USBC - ID/ACIFA0 - ACAOUT (io), 11 PA05/GPIO 5/ADCIN1/USBC -VBOF/ACIFA0 - ACBOUT (io), 12 PA06/GPIO 6/ADCIN2/AC1AP1/PEVC - PAD_EVT [2] (io), 13 PA07/GPIO 7/ADCIN3/AC1AN1/PEVC - PAD_EVT [3] (io), 14 PA08/GPIO 8/ADCIN4/AC1BP1/EIC - EXTINT[2]/EVTI_N (io), 15 PA09/GPIO 9/ADCIN5/AC1BN1/MDO[0] (io), 16 PA10/GPIO 10/ADCIN6/EIC - EXTINT[4]/PEVC - PAD_EVT [13]/EVTI_N (io), 17 PA11/GPIO 11/ADCIN7/ADCREF1/PEVC - PAD_EVT [14] (io), 18 PA12/GPIO 12/AC1AP0/SPI0 - NPCS[0]/AC1AP0/DAC1A (io), 19 PA13/GPIO 13/AC1AN0/SPI0 - NPCS[1]/ADCIN15 (io), 20 PA14/GPIO 14/AC1BP0/SPI1 - NPCS[0] (io), 21 PA15/GPIO 15/AC1BN0/SPI1 - NPCS[1]/AC1BN0/DAC1B (io), 22 PA16/GPIO 16/ADCREF0/DACREF (io), 25 PA19/GPIO 19/ADCIN8/EIC - EXTINT[1]/MDO[0]/MDO[1] (io), 28 PA20/GPIO 20/ADCIN9/AC0AP0/AC0AP0/DAC0A (io), 29 PA21/GPIO 21/ADCIN10/AC0BN0/AC0BN0/DAC0B (io), 30 PA22/GPIO 22/ADCIN11/AC0AN0/PEVC - PAD_EVT [4]/MACB - SPEED/MDO[2] (io), 31 PA23/GPIO 23/ADCIN12/AC0BP0/PEVC - PAD_EVT [5]/MACB - WOL/MDO[3] (io), 32 PA24/GPIO 24/ADCIN13/SPI1 - NPCS[2] (io), 33 PA25/GPIO 25/ADCIN14/SPI1 - NPCS[3]/EIC - EXTINT[0] (io)
part B pins: 7 PB04/GPIO 36/SPI1 -MOSI/CANIF - RXLINE[0]/QDEC1 -QEPI//MACB - TXD[2] (io), 8 PB05/GPIO 37/SPI1 -MISO/CANIF - TXLINE[0]/PEVC - PAD_EVT [12]/USART3 - CLK/MACB - TXD[3] (io), 9 PB06/GPIO 38/SPI1 -SCK/QDEC1 -QEPA/USART1 - CLK/MACB - TX_ER/MDO[5] (io), 42 PB19/GPIO 51/TC0 - A0/SPI1 - MOSI/IISC -ISDO/MACB - CRS/EVTI_N (io), 43 PB20/GPIO 52/TC0 - B0/SPI1 - MISO/IISC - ISDI/ACIFA1 -ACAOUT/MACB - COL/MDO[0] (io), 44 PB21/GPIO 53/TC0 - CLK1/SPI1 - SCK/IISC -IMCK/ACIFA1 -ACBOUT/MACB - RXD[2]/MCKO (io), 45 PB22/GPIO 54/TC0 - A1/SPI1 - NPCS[3]/IISC -ISCK/SCIF - GCLK[0]/MACB - RXD[3]/MDO[1] (io), 46 PB23/GPIO 55/TC0 - B1/SPI1 - NPCS[2]/IISC - IWS/SCIF - GCLK[1]/MACB - RX_CLK/MDO[2] (io), 47 PB30/GPIO 62/xin0 (io), 48 PB31/GPIO 63/xout0 (io), 96 PB00/GPIO 32/USART0 - CLK/CANIF - RXLINE[1]/EIC - EXTINT[8]/PEVC -PAD_EVT [10]/xin32 (io), 97 PB01/GPIO 33/CANIF - TXLINE[1]/PEVC -PAD_EVT [11]/xout32 (io), 99 PB02/GPIO 34/USBC - ID/PEVC - PAD_EVT [6]/TC1 - A1/xin1 (io), 100 PB03/GPIO 35/USBC -VBOF/PEVC - PAD_EVT [7]/xout1 (io)
part C pins: 49 PC00/GPIO 64/USBC - ID/SPI0 - NPCS[1]/USART2 - CTS/TC1 - B2/CANIF - TXLINE[1] (io), 50 PC01/GPIO 65/USBC - VBOF/SPI0 - NPCS[2]/USART2 - RTS/TC1 - A2/CANIF - RXLINE[1] (io), 51 PC02/GPIO 66/TWIMS0 - TWD/SPI0 - NPCS[3]/USART2 - RXD/TC1 - CLK1/MACB - MDC (io), 52 PC03/GPIO 67/TWIMS0 - TWCK/EIC - EXTINT[1]/USART2 - TXD/TC1 - B1/MACB - MDIO (io), 55 PC04/GPIO 68/TWIMS1 - TWD/EIC - EXTINT[3]/USART2 - TXD/TC0 - B1/MDO[4] (io), 56 PC05/GPIO 69/TWIMS1 - TWCK/EIC - EXTINT[4]/USART2 - RXD/TC0 - A2/MDO[5] (io), 57 PC06/GPIO 70/PEVC -PAD_EVT [15]/USART2 - CLK/USART2 - CTS/TC0 - CLK2/TWIMS2 - TWD/TWIMS0 - TWALM (io), 58 PC07/GPIO 71/PEVC -PAD_EVT [2]/EBI - NCS[3]/USART2 - RTS/TC0 - B2/TWIMS2 - TWCK/TWIMS1 - TWALM (io), 59 PC11/GPIO 75/PWM - PWMH[3]/CANIF - RXLINE[1]/EBI -ADDR[21]/TC0 - CLK0/MDO[3] (io), 60 PC12/GPIO 76/PWM - PWML[3]/CANIF - TXLINE[1]/EBI -ADDR[20]/USART2 - CLK/MDO[4] (io), 61 PC13/GPIO 77/PWM - PWMH[2]/EIC - EXTINT[7]//USART0 - RTS (io), 62 PC14/GPIO 78/PWM - PWML[2]/USART0 - CLK/EBI -SDCKE/USART0 - CTS (io), 63 PC15/GPIO 79/PWM - PWMH[1]/SPI0 - NPCS[0]/EBI -SDWE/USART0 - RXD/CANIF - RXLINE[1] (io), 64 PC16/GPIO 80/PWM - PWML[1]/SPI0 - NPCS[1]/EBI - CAS/USART0 - TXD/CANIF - TXLINE[1] (io), 65 PC17/GPIO 81/PWM - PWMH[0]/SPI0 - NPCS[2]/EBI - RAS/IISC -ISDO/USART3 - TXD (io), 66 PC18/GPIO 82/PWM - PWML[0]/EIC - EXTINT[5]/EBI -SDA10/IISC -ISDI/USART3 - RXD (io), 67 PC19/GPIO 83/PWM - PWML[2]/SCIF -GCLK[0]/EBI -DATA[0]/IISC -IMCK/USART3 - CTS (io), 68 PC20/GPIO 84/PWM - PWMH[2]/SCIF -GCLK[1]/EBI -DATA[1]/IISC -ISCK/USART3 - RTS (io), 69 PC21/GPIO 85/PWM - EXT_ FAULTS[0]/CANIF - RXLINE[0]/EBI -DATA[2]/IISC - IWS (io), 70 PC22/GPIO 86/PWM - EXT_ FAULTS[1]/CANIF - TXLINE[0]/EBI -DATA[3]/USART3 -CLK (io), 71 PC23/GPIO 87/QDEC1 -QEPB/CANIF - RXLINE[1]/EBI -DATA[4]/PEVC -PAD_EVT [3] (io), 72 PC24/GPIO 88/QDEC1 -QEPA/CANIF - TXLINE[1]/EBI -DATA[5]/PEVC -PAD_EVT [4] (io), 73 PC31/GPIO 95/SPI0 -NPCS[3]/TC1 - B0/EBI -DATA[12]/PEVC -PAD_EVT [5]/USART4 -CLK/MDO[5] (io)
part D pins: 74 PD00/GPIO 96/SPI0 -MOSI/TC1 -CLK0/EBI -DATA[13]/QDEC0 -QEPI/USART0 -TXD (io), 75 PD01/GPIO 97/SPI0 -MISO/TC1 - A0/EBI -DATA[14]/TC0 - CLK1/USART0 -RXD (io), 76 PD02/GPIO 98/SPI0 -SCK/TC0 -CLK2/EBI -DATA[15]/QDEC0 -QEPA (io), 77 PD03/GPIO 99/SPI0 -NPCS[0]/TC0 - B2/EBI -ADDR[0]/QDEC0 -QEPB (io), 78 PD07/GPIO 103/USART1 - DTR/EIC - EXTINT[5]/EBI -ADDR[4]/QDEC0 -QEPI/USART4 -TXD/MSEO[0] (io), 79 PD08/GPIO 104/USART1 - DSR/EIC - EXTINT[6]/EBI -ADDR[5]/TC1 - CLK2/USART4 -RXD/MSEO[1] (io), 80 PD09/GPIO 105/USART1 - DCD/CANIF - RXLINE[0]/EBI -ADDR[6]/QDEC0 -QEPA/USART4 -CTS (io), 81 PD10/GPIO 106/USART1 - RI/CANIF - TXLINE[0]/EBI -ADDR[7]/QDEC0 -QEPB/USART4 -RTS (io), 84 PD11/GPIO 107/USART1 - TXD/USBC - ID/EBI -ADDR[8]/PEVC -PAD_EVT [6]/MACB - TXD[0] (io), 85 PD12/GPIO 108/USART1 - RXD/USBC -VBOF/EBI -ADDR[9]/PEVC -PAD_EVT [7]/MACB - TXD[1] (io), 86 PD13/GPIO 109/USART1 - CTS/USART1 - CLK/EBI -SDCK/PEVC -PAD_EVT [8]/MACB - RXD[0]/MCKO (io), 87 PD14/GPIO 110/USART1 - RTS/EIC - EXTINT[7]/EBI -ADDR[10]/PEVC -PAD_EVT [9]/MACB - RXD[1]/MSEO[0] (io), 88 PD21/GPIO 117/USART3 - TXD/EIC - EXTINT[0]/EBI -ADDR[17]/QDEC1 -QEPI (io), 89 PD22/GPIO 118/USART3 - RXD/TC0 - A2/EBI -ADDR[18]/SCIF - GCLK[0] (io), 90 PD23/GPIO 119/USART3 - CTS/USART3 - CLK/EBI -ADDR[19]/QDEC1 -QEPA (io), 91 PD24/GPIO 120/USART3 - RTS/EIC - EXTINT[8]/EBI -NWE1/QDEC1 -QEPB (io), 92 PD27/GPIO 123/USART0 - TXD/CANIF - RXLINE[0]/EBI -NCS[1]/TC0 - A0/MACB - RX_ER (io), 93 PD28/GPIO 124/USART0 - RXD/CANIF - TXLINE[0]/EBI -NCS[2]/TC0 - B0/MACB - RX_DV (io), 94 PD29/GPIO 125/USART0 - CTS/EIC - EXTINT[6]/USART0 - CLK/TC0 - CLK0/MACB - TX_CLK/EVTO_N (io), 95 PD30/GPIO 126/USART0 - RTS/EIC - EXTINT[3]/EBI -NWAIT/TC0 - A1/MACB - TX_EN/MSEO[1] (io)
part E pins: 23 ADCVREFP (in), 24 ADCVREFN (in), 34 VBUS (in), 35 DM (io), 36 DP (io), 98 RESET_N/DATA (io)
part F pins: 5 VDDIO1 (power), 6 GNDIO1 (power), 26 GNDANA (power), 27 VDDANA (power), 37 GNDPLL (power), 38 VDDIN_5 (power), 39 VDDIN_33 (power), 40 VDDCORE (power), 41 GNDCORE (power), 53 VDDIO2 (power), 54 GNDIO2 (power), 82 VDDIO3 (power), 83 GNDIO3 (power)

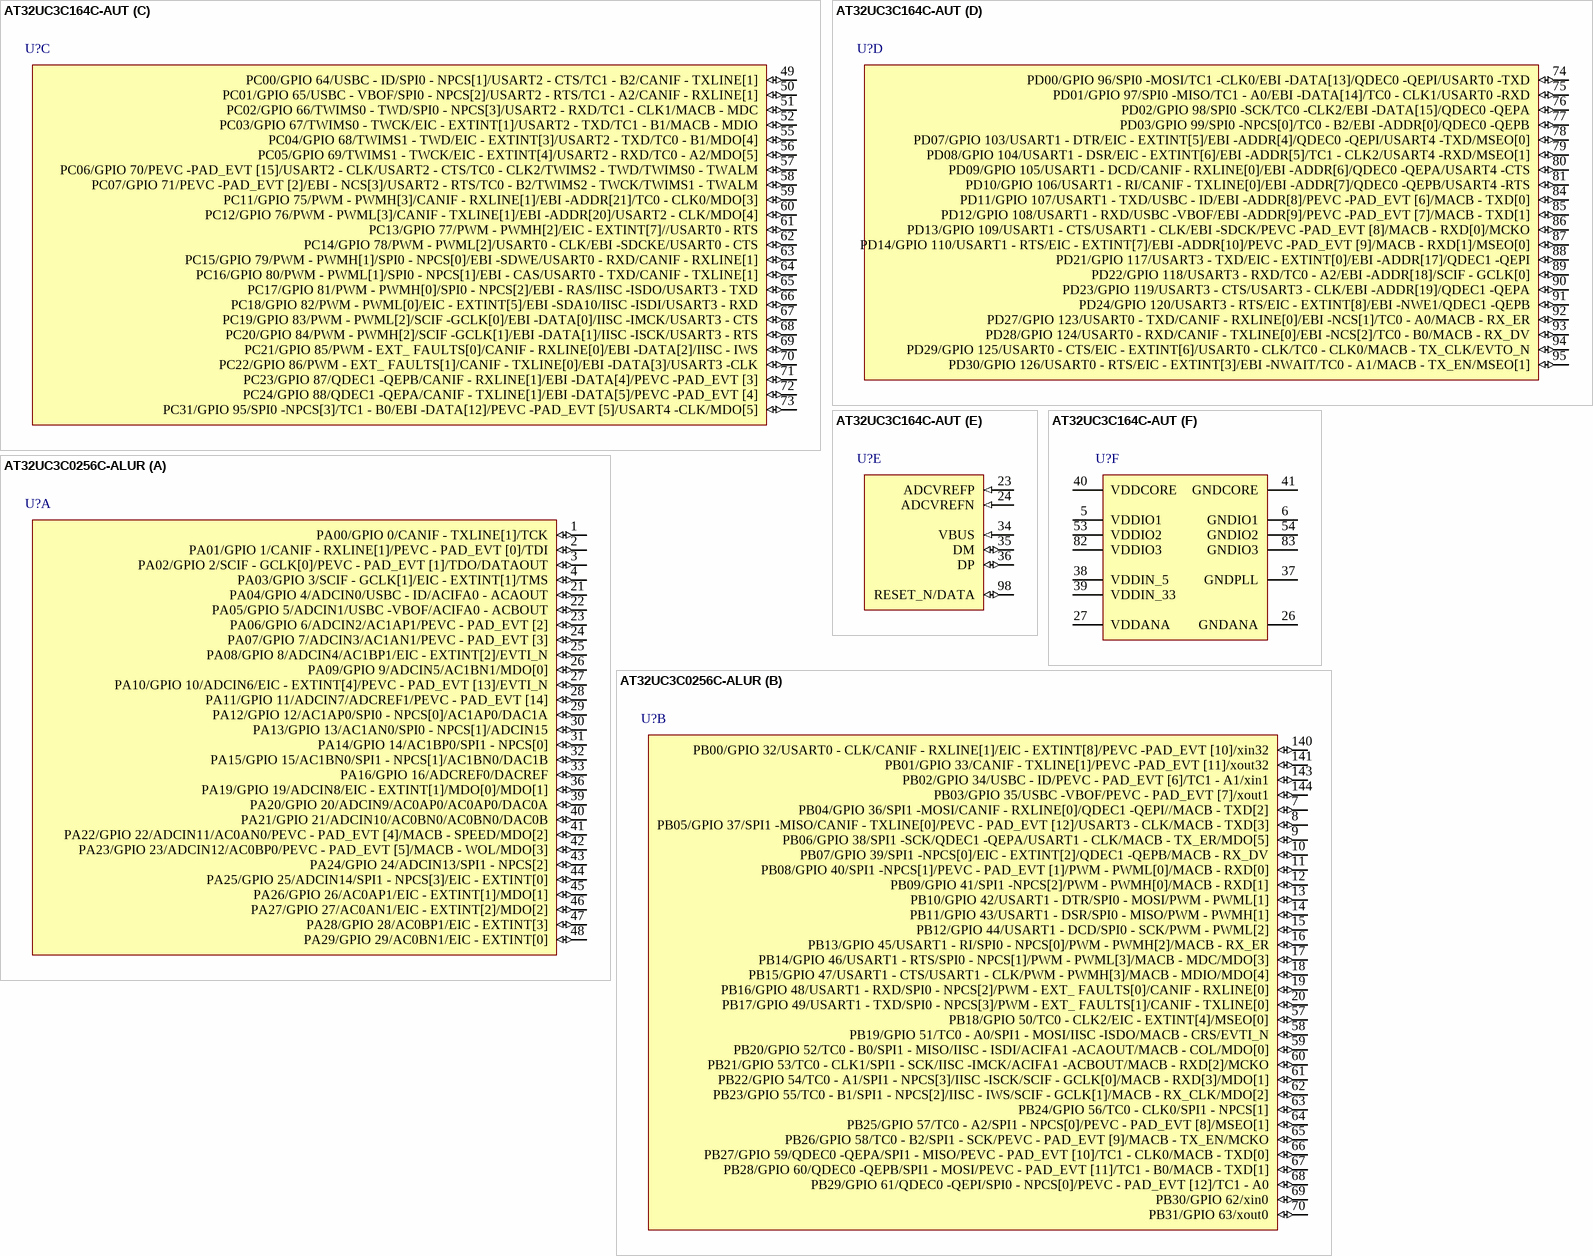
[diagram p75: symbols AT32UC3C164C-AUT to AT32UC3C0256C-ALUR]